# Altium integrated library Xilinx PLD XC9500XL.IntLib: 169 symbols (part 2 of 11)
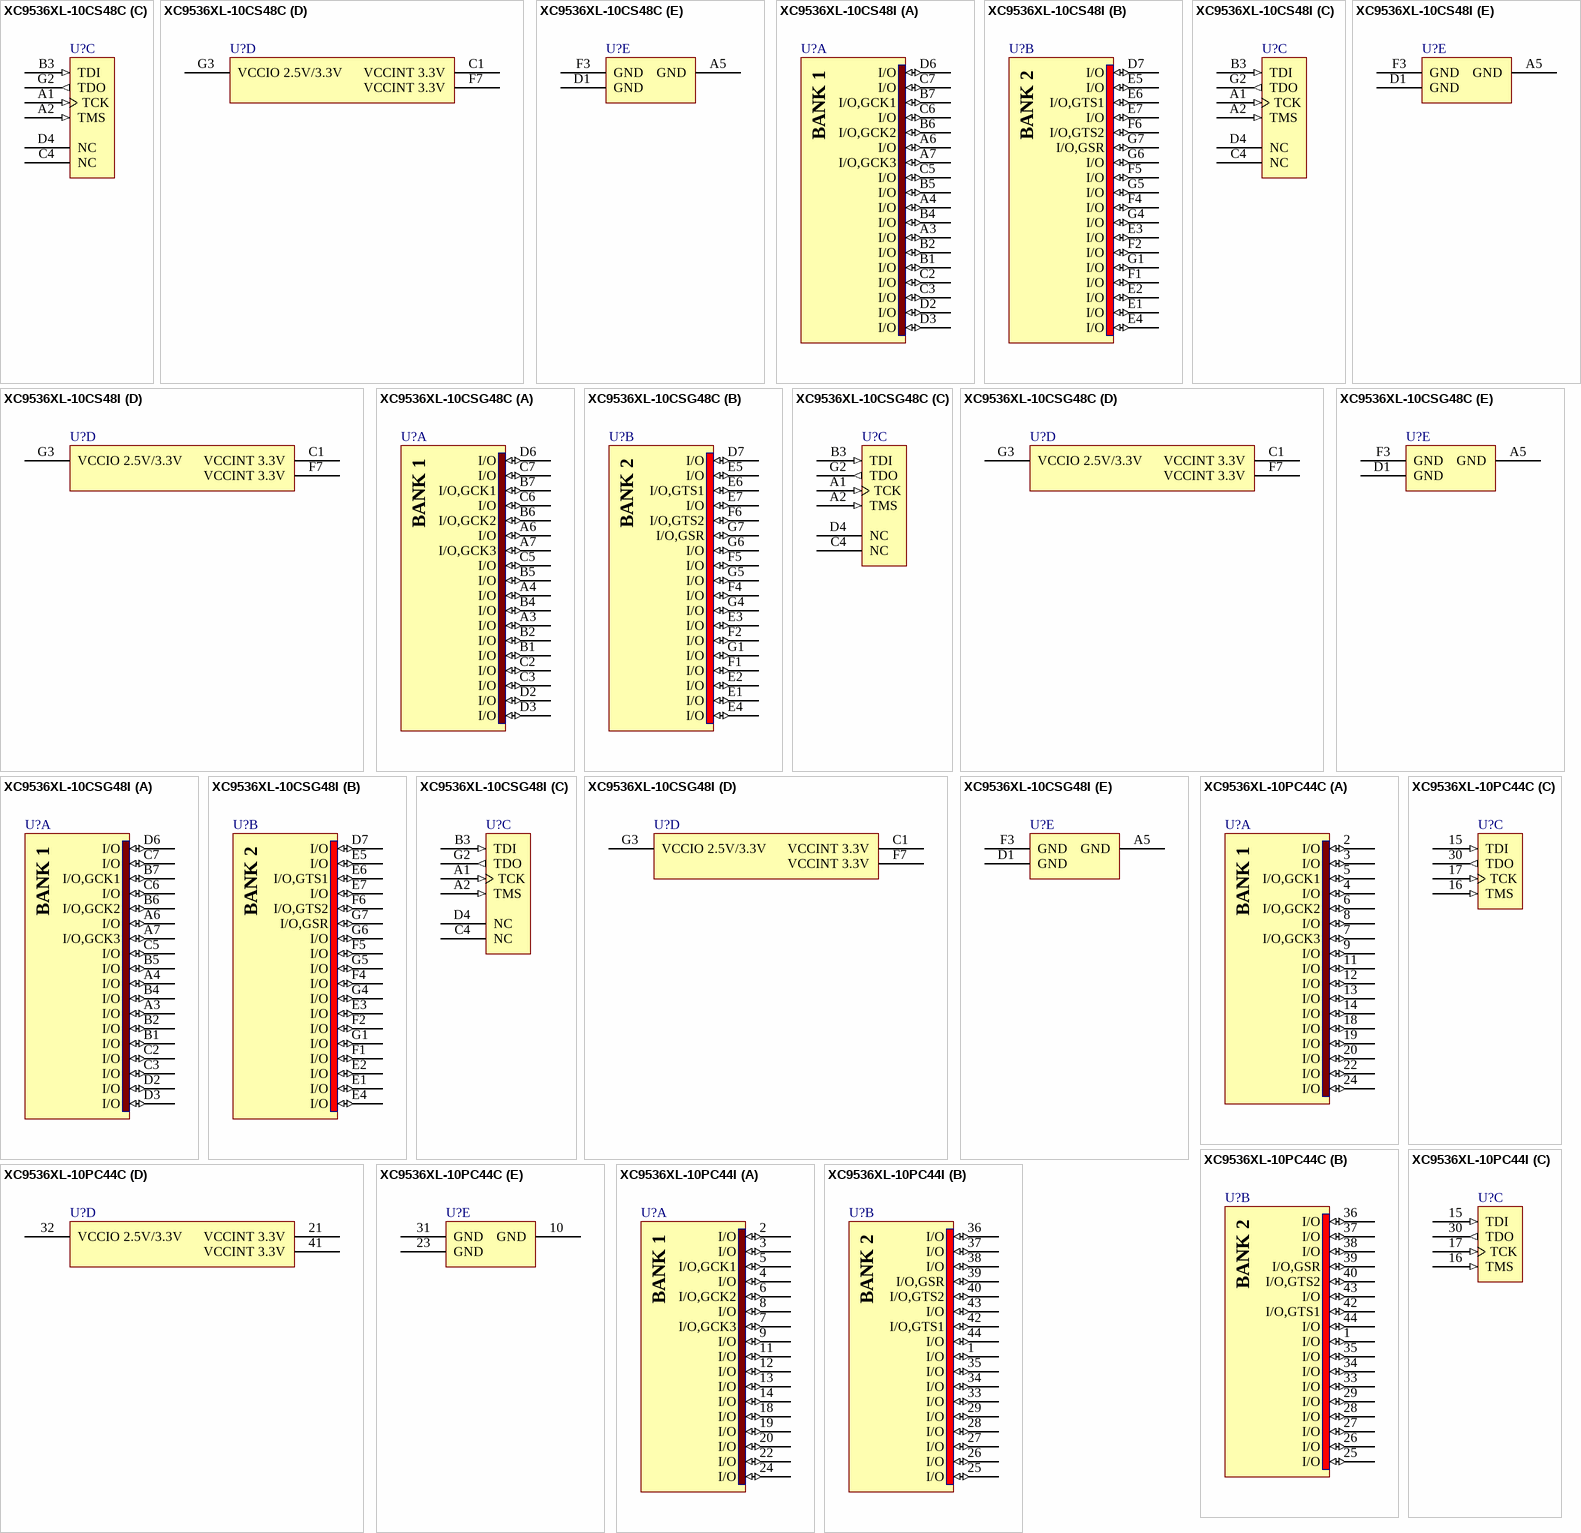
[diagram p59: symbols XC9536XL-10CS48C to XC9536XL-10PC44I]

## XC9536XL-10PC44C
designator U?
FastFLASH XC900XL, 3.3V High-Performance 36 Macrocell CPLD, 34 User I/Os, 44-Pin PLCC, Speed Grade 10, Commercial Grade; DatasheetVersion: ver1.9, Apr-2007; PackageVersion: ver1.2, Jun-2004; PackageReference: PC44; PackageDescription: 44-Pin Plastic Leaded Chip Carrier (PC44); Code_JEDEC: MS-047; Code_IPC: PLCC-44; ComponentLink1Description: Manufacturer URL; ComponentLink1URL: http://www.xilinx.com/; ComponentLink2Description: XC9536XL Datasheet; ComponentLink2URL: http://www.xilinx.com/support/documentation/data_sheets/ds058.pdf; ComponentLink3Description: PC44 Package Drawing; ComponentLink3URL: http://www.xilinx.com/support/documentation/package_specs/pc44.pdf; ComponentLink4Description: XC9500XL Documents; ComponentLink4URL: http://www.xilinx.com/support/documentation/xc9500xl.htm
footprint PC44_N (Leaded Chip Carrier, 44-Leads, Body 16.6x16.6mm, Pitch 1.27mm, IPC Medium Density)
footprint PC44_L (Leaded Chip Carrier, 44-Leads, Body 16.6x16.6mm, Pitch 1.27mm, IPC High Density)
footprint PC44_M (Leaded Chip Carrier, 44-Leads, Body 16.6x16.6mm, Pitch 1.27mm, IPC Low Density)
part A pins: 2 I/O (io), 3 I/O (io), 4 I/O (io), 5 I/O,GCK1 (io), 6 I/O,GCK2 (io), 7 I/O,GCK3 (io), 8 I/O (io), 9 I/O (io), 11 I/O (io), 12 I/O (io), 13 I/O (io), 14 I/O (io), 18 I/O (io), 19 I/O (io), 20 I/O (io), 22 I/O (io), 24 I/O (io)
part B pins: 1 I/O (io), 25 I/O (io), 26 I/O (io), 27 I/O (io), 28 I/O (io), 29 I/O (io), 33 I/O (io), 34 I/O (io), 35 I/O (io), 36 I/O (io), 37 I/O (io), 38 I/O (io), 39 I/O,GSR (io), 40 I/O,GTS2 (io), 42 I/O,GTS1 (io), 43 I/O (io), 44 I/O (io)
part C pins: 15 TDI (in), 16 TMS (in), 17 TCK (in), 30 TDO (out)
part D pins: 21 VCCINT 3.3V (power), 32 VCCIO 2.5V/3.3V (power), 41 VCCINT 3.3V (power)
part E pins: 10 GND (power), 23 GND (power), 31 GND (power)
part A text: BANK 1
part B text: BANK 2

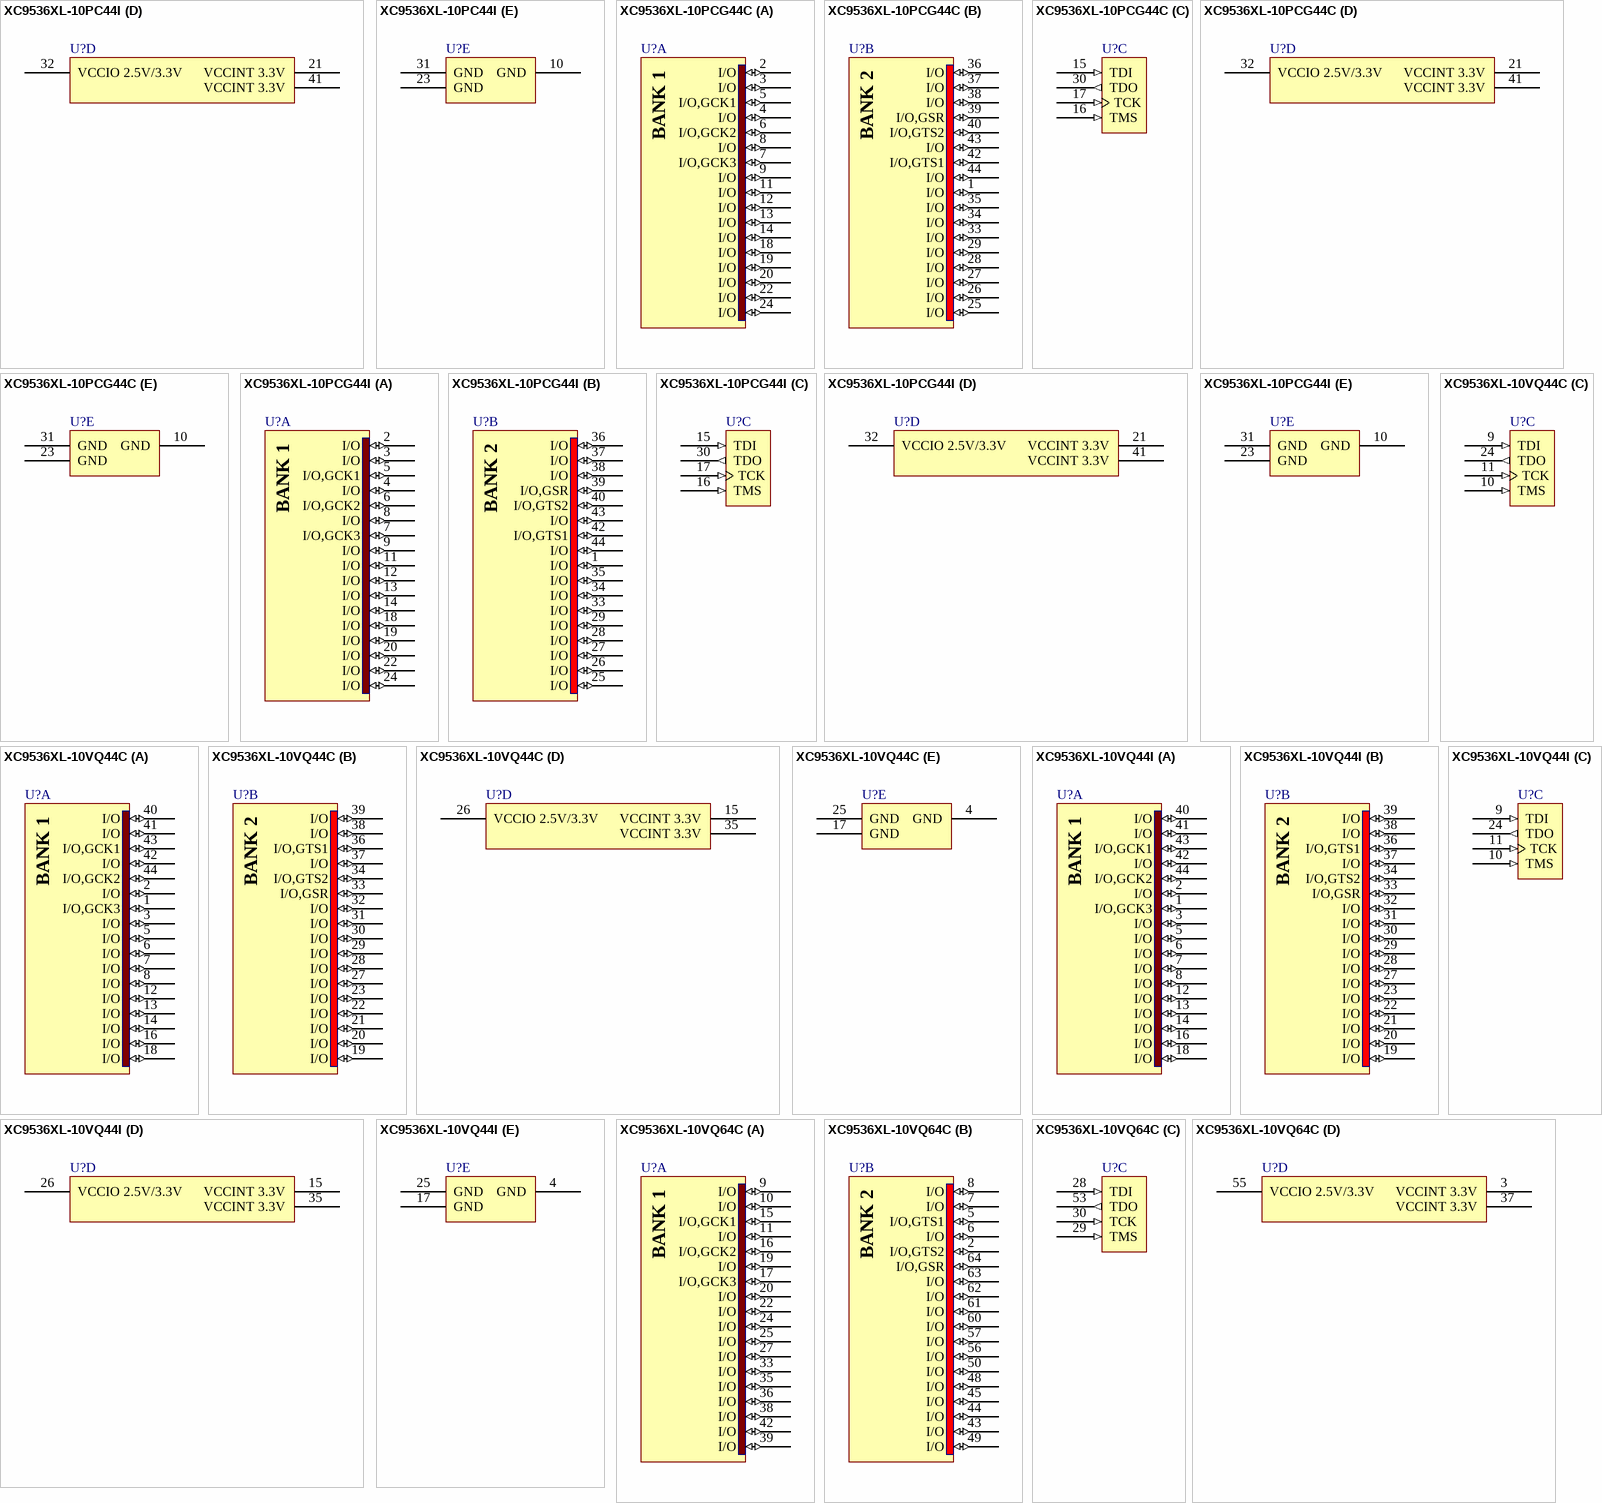
[diagram p6: symbols XC9536XL-10PC44I to XC9536XL-10VQ64C]

## XC9536XL-10PC44I
designator U?
FastFLASH XC900XL, 3.3V High-Performance 36 Macrocell CPLD, 34 User I/Os, 44-Pin PLCC, Speed Grade 10, Industrial Grade; DatasheetVersion: ver1.9, Apr-2007; PackageVersion: ver1.2, Jun-2004; PackageReference: PC44; PackageDescription: 44-Pin Plastic Leaded Chip Carrier (PC44); Code_JEDEC: MS-047; Code_IPC: PLCC-44; ComponentLink1Description: Manufacturer URL; ComponentLink1URL: http://www.xilinx.com/; ComponentLink2Description: XC9536XL Datasheet; ComponentLink2URL: http://www.xilinx.com/support/documentation/data_sheets/ds058.pdf; ComponentLink3Description: PC44 Package Drawing; ComponentLink3URL: http://www.xilinx.com/support/documentation/package_specs/pc44.pdf; ComponentLink4Description: XC9500XL Documents; ComponentLink4URL: http://www.xilinx.com/support/documentation/xc9500xl.htm
footprint PC44_N (Leaded Chip Carrier, 44-Leads, Body 16.6x16.6mm, Pitch 1.27mm, IPC Medium Density)
footprint PC44_L (Leaded Chip Carrier, 44-Leads, Body 16.6x16.6mm, Pitch 1.27mm, IPC High Density)
footprint PC44_M (Leaded Chip Carrier, 44-Leads, Body 16.6x16.6mm, Pitch 1.27mm, IPC Low Density)
part A pins: 2 I/O (io), 3 I/O (io), 4 I/O (io), 5 I/O,GCK1 (io), 6 I/O,GCK2 (io), 7 I/O,GCK3 (io), 8 I/O (io), 9 I/O (io), 11 I/O (io), 12 I/O (io), 13 I/O (io), 14 I/O (io), 18 I/O (io), 19 I/O (io), 20 I/O (io), 22 I/O (io), 24 I/O (io)
part B pins: 1 I/O (io), 25 I/O (io), 26 I/O (io), 27 I/O (io), 28 I/O (io), 29 I/O (io), 33 I/O (io), 34 I/O (io), 35 I/O (io), 36 I/O (io), 37 I/O (io), 38 I/O (io), 39 I/O,GSR (io), 40 I/O,GTS2 (io), 42 I/O,GTS1 (io), 43 I/O (io), 44 I/O (io)
part C pins: 15 TDI (in), 16 TMS (in), 17 TCK (in), 30 TDO (out)
part D pins: 21 VCCINT 3.3V (power), 32 VCCIO 2.5V/3.3V (power), 41 VCCINT 3.3V (power)
part E pins: 10 GND (power), 23 GND (power), 31 GND (power)
part A text: BANK 1
part B text: BANK 2

## XC9536XL-10PCG44C
designator U?
FastFLASH XC900XL, 3.3V High-Performance 36 Macrocell CPLD, 34 User I/Os, 44-Pin PLCC, Speed Grade 10, Commercial Grade, Pb-Free; DatasheetVersion: ver1.9, Apr-2007; PackageVersion: ver1.2, Jun-2004; PackageReference: PCG44; PackageDescription: 44-Pin Plastic Leaded Chip Carrier (PCG44) - Pb-Free; Code_JEDEC: MS-047; Code_IPC: PLCC-44; ComponentLink1Description: Manufacturer URL; ComponentLink1URL: http://www.xilinx.com/; ComponentLink2Description: XC9536XL Datasheet; ComponentLink2URL: http://www.xilinx.com/support/documentation/data_sheets/ds058.pdf; ComponentLink3Description: PCG44 Package Drawing; ComponentLink3URL: http://www.xilinx.com/support/documentation/package_specs/pc44.pdf; ComponentLink4Description: XC9500XL Documents; ComponentLink4URL: http://www.xilinx.com/support/documentation/xc9500xl.htm
footprint PCG44_N (Leaded Chip Carrier, 44-Leads, Body 16.6x16.6mm, Pitch 1.27mm, IPC Medium Density)
footprint PCG44_L (Leaded Chip Carrier, 44-Leads, Body 16.6x16.6mm, Pitch 1.27mm, IPC High Density)
footprint PCG44_M (Leaded Chip Carrier, 44-Leads, Body 16.6x16.6mm, Pitch 1.27mm, IPC Low Density)
part A pins: 2 I/O (io), 3 I/O (io), 4 I/O (io), 5 I/O,GCK1 (io), 6 I/O,GCK2 (io), 7 I/O,GCK3 (io), 8 I/O (io), 9 I/O (io), 11 I/O (io), 12 I/O (io), 13 I/O (io), 14 I/O (io), 18 I/O (io), 19 I/O (io), 20 I/O (io), 22 I/O (io), 24 I/O (io)
part B pins: 1 I/O (io), 25 I/O (io), 26 I/O (io), 27 I/O (io), 28 I/O (io), 29 I/O (io), 33 I/O (io), 34 I/O (io), 35 I/O (io), 36 I/O (io), 37 I/O (io), 38 I/O (io), 39 I/O,GSR (io), 40 I/O,GTS2 (io), 42 I/O,GTS1 (io), 43 I/O (io), 44 I/O (io)
part C pins: 15 TDI (in), 16 TMS (in), 17 TCK (in), 30 TDO (out)
part D pins: 21 VCCINT 3.3V (power), 32 VCCIO 2.5V/3.3V (power), 41 VCCINT 3.3V (power)
part E pins: 10 GND (power), 23 GND (power), 31 GND (power)
part A text: BANK 1
part B text: BANK 2

## XC9536XL-10PCG44I
designator U?
FastFLASH XC900XL, 3.3V High-Performance 36 Macrocell CPLD, 34 User I/Os, 44-Pin PLCC, Speed Grade 10, Industrial Grade, Pb-Free; DatasheetVersion: ver1.9, Apr-2007; PackageVersion: ver1.2, Jun-2004; PackageReference: PCG44; PackageDescription: 44-Pin Plastic Leaded Chip Carrier (PCG44) - Pb-Free; Code_JEDEC: MS-047; Code_IPC: PLCC-44; ComponentLink1Description: Manufacturer URL; ComponentLink1URL: http://www.xilinx.com/; ComponentLink2Description: XC9536XL Datasheet; ComponentLink2URL: http://www.xilinx.com/support/documentation/data_sheets/ds058.pdf; ComponentLink3Description: PCG44 Package Drawing; ComponentLink3URL: http://www.xilinx.com/support/documentation/package_specs/pc44.pdf; ComponentLink4Description: XC9500XL Documents; ComponentLink4URL: http://www.xilinx.com/support/documentation/xc9500xl.htm
footprint PCG44_N (Leaded Chip Carrier, 44-Leads, Body 16.6x16.6mm, Pitch 1.27mm, IPC Medium Density)
footprint PCG44_L (Leaded Chip Carrier, 44-Leads, Body 16.6x16.6mm, Pitch 1.27mm, IPC High Density)
footprint PCG44_M (Leaded Chip Carrier, 44-Leads, Body 16.6x16.6mm, Pitch 1.27mm, IPC Low Density)
part A pins: 2 I/O (io), 3 I/O (io), 4 I/O (io), 5 I/O,GCK1 (io), 6 I/O,GCK2 (io), 7 I/O,GCK3 (io), 8 I/O (io), 9 I/O (io), 11 I/O (io), 12 I/O (io), 13 I/O (io), 14 I/O (io), 18 I/O (io), 19 I/O (io), 20 I/O (io), 22 I/O (io), 24 I/O (io)
part B pins: 1 I/O (io), 25 I/O (io), 26 I/O (io), 27 I/O (io), 28 I/O (io), 29 I/O (io), 33 I/O (io), 34 I/O (io), 35 I/O (io), 36 I/O (io), 37 I/O (io), 38 I/O (io), 39 I/O,GSR (io), 40 I/O,GTS2 (io), 42 I/O,GTS1 (io), 43 I/O (io), 44 I/O (io)
part C pins: 15 TDI (in), 16 TMS (in), 17 TCK (in), 30 TDO (out)
part D pins: 21 VCCINT 3.3V (power), 32 VCCIO 2.5V/3.3V (power), 41 VCCINT 3.3V (power)
part E pins: 10 GND (power), 23 GND (power), 31 GND (power)
part A text: BANK 1
part B text: BANK 2

## XC9536XL-10VQ44C
designator U?
FastFLASH XC900XL, 3.3V High-Performance 36 Macrocell CPLD, 34 User I/Os, 44-Pin VQFP, Speed Grade 10, Commercial Grade; DatasheetVersion: ver1.9, Apr-2007; PackageVersion: ver1.2, Jun-2004; PackageReference: VQ44; PackageDescription: 44-Pin Very Thin Quad Flat Pack (VQ44); Code_JEDEC: MS-026-ACB; ComponentLink1Description: Manufacturer URL; ComponentLink1URL: http://www.xilinx.com/; ComponentLink2Description: XC9536XL Datasheet; ComponentLink2URL: http://www.xilinx.com/support/documentation/data_sheets/ds058.pdf; ComponentLink3Description: VQ44 Package Drawing; ComponentLink3URL: http://www.xilinx.com/support/documentation/package_specs/vq44.pdf; ComponentLink4Description: XC9500XL Documents; ComponentLink4URL: http://www.xilinx.com/support/documentation/xc9500xl.htm
footprint VQ44_N (Thin QFP, 44-Leads, Body 10x10mm, Pitch 0.8mm, IPC Medium Density)
footprint VQ44_L (Thin QFP, 44-Leads, Body 10x10mm, Pitch 0.8mm, IPC High Density)
footprint VQ44_M (Thin QFP, 44-Leads, Body 10x10mm, Pitch 0.8mm, IPC Low Density)
part A pins: 1 I/O,GCK3 (io), 2 I/O (io), 3 I/O (io), 5 I/O (io), 6 I/O (io), 7 I/O (io), 8 I/O (io), 12 I/O (io), 13 I/O (io), 14 I/O (io), 16 I/O (io), 18 I/O (io), 40 I/O (io), 41 I/O (io), 42 I/O (io), 43 I/O,GCK1 (io), 44 I/O,GCK2 (io)
part B pins: 19 I/O (io), 20 I/O (io), 21 I/O (io), 22 I/O (io), 23 I/O (io), 27 I/O (io), 28 I/O (io), 29 I/O (io), 30 I/O (io), 31 I/O (io), 32 I/O (io), 33 I/O,GSR (io), 34 I/O,GTS2 (io), 36 I/O,GTS1 (io), 37 I/O (io), 38 I/O (io), 39 I/O (io)
part C pins: 9 TDI (in), 10 TMS (in), 11 TCK (in), 24 TDO (out)
part D pins: 15 VCCINT 3.3V (power), 26 VCCIO 2.5V/3.3V (power), 35 VCCINT 3.3V (power)
part E pins: 4 GND (power), 17 GND (power), 25 GND (power)
part A text: BANK 1
part B text: BANK 2

## XC9536XL-10VQ44I
designator U?
FastFLASH XC900XL, 3.3V High-Performance 36 Macrocell CPLD, 34 User I/Os, 44-Pin VQFP, Speed Grade 10, Industrial Grade; DatasheetVersion: ver1.9, Apr-2007; PackageVersion: ver1.2, Jun-2004; PackageReference: VQ44; PackageDescription: 44-Pin Very Thin Quad Flat Pack (VQ44); Code_JEDEC: MS-026-ACB; ComponentLink1Description: Manufacturer URL; ComponentLink1URL: http://www.xilinx.com/; ComponentLink2Description: XC9536XL Datasheet; ComponentLink2URL: http://www.xilinx.com/support/documentation/data_sheets/ds058.pdf; ComponentLink3Description: VQ44 Package Drawing; ComponentLink3URL: http://www.xilinx.com/support/documentation/package_specs/vq44.pdf; ComponentLink4Description: XC9500XL Documents; ComponentLink4URL: http://www.xilinx.com/support/documentation/xc9500xl.htm
footprint VQ44_N (Thin QFP, 44-Leads, Body 10x10mm, Pitch 0.8mm, IPC Medium Density)
footprint VQ44_L (Thin QFP, 44-Leads, Body 10x10mm, Pitch 0.8mm, IPC High Density)
footprint VQ44_M (Thin QFP, 44-Leads, Body 10x10mm, Pitch 0.8mm, IPC Low Density)
part A pins: 1 I/O,GCK3 (io), 2 I/O (io), 3 I/O (io), 5 I/O (io), 6 I/O (io), 7 I/O (io), 8 I/O (io), 12 I/O (io), 13 I/O (io), 14 I/O (io), 16 I/O (io), 18 I/O (io), 40 I/O (io), 41 I/O (io), 42 I/O (io), 43 I/O,GCK1 (io), 44 I/O,GCK2 (io)
part B pins: 19 I/O (io), 20 I/O (io), 21 I/O (io), 22 I/O (io), 23 I/O (io), 27 I/O (io), 28 I/O (io), 29 I/O (io), 30 I/O (io), 31 I/O (io), 32 I/O (io), 33 I/O,GSR (io), 34 I/O,GTS2 (io), 36 I/O,GTS1 (io), 37 I/O (io), 38 I/O (io), 39 I/O (io)
part C pins: 9 TDI (in), 10 TMS (in), 11 TCK (in), 24 TDO (out)
part D pins: 15 VCCINT 3.3V (power), 26 VCCIO 2.5V/3.3V (power), 35 VCCINT 3.3V (power)
part E pins: 4 GND (power), 17 GND (power), 25 GND (power)
part A text: BANK 1
part B text: BANK 2

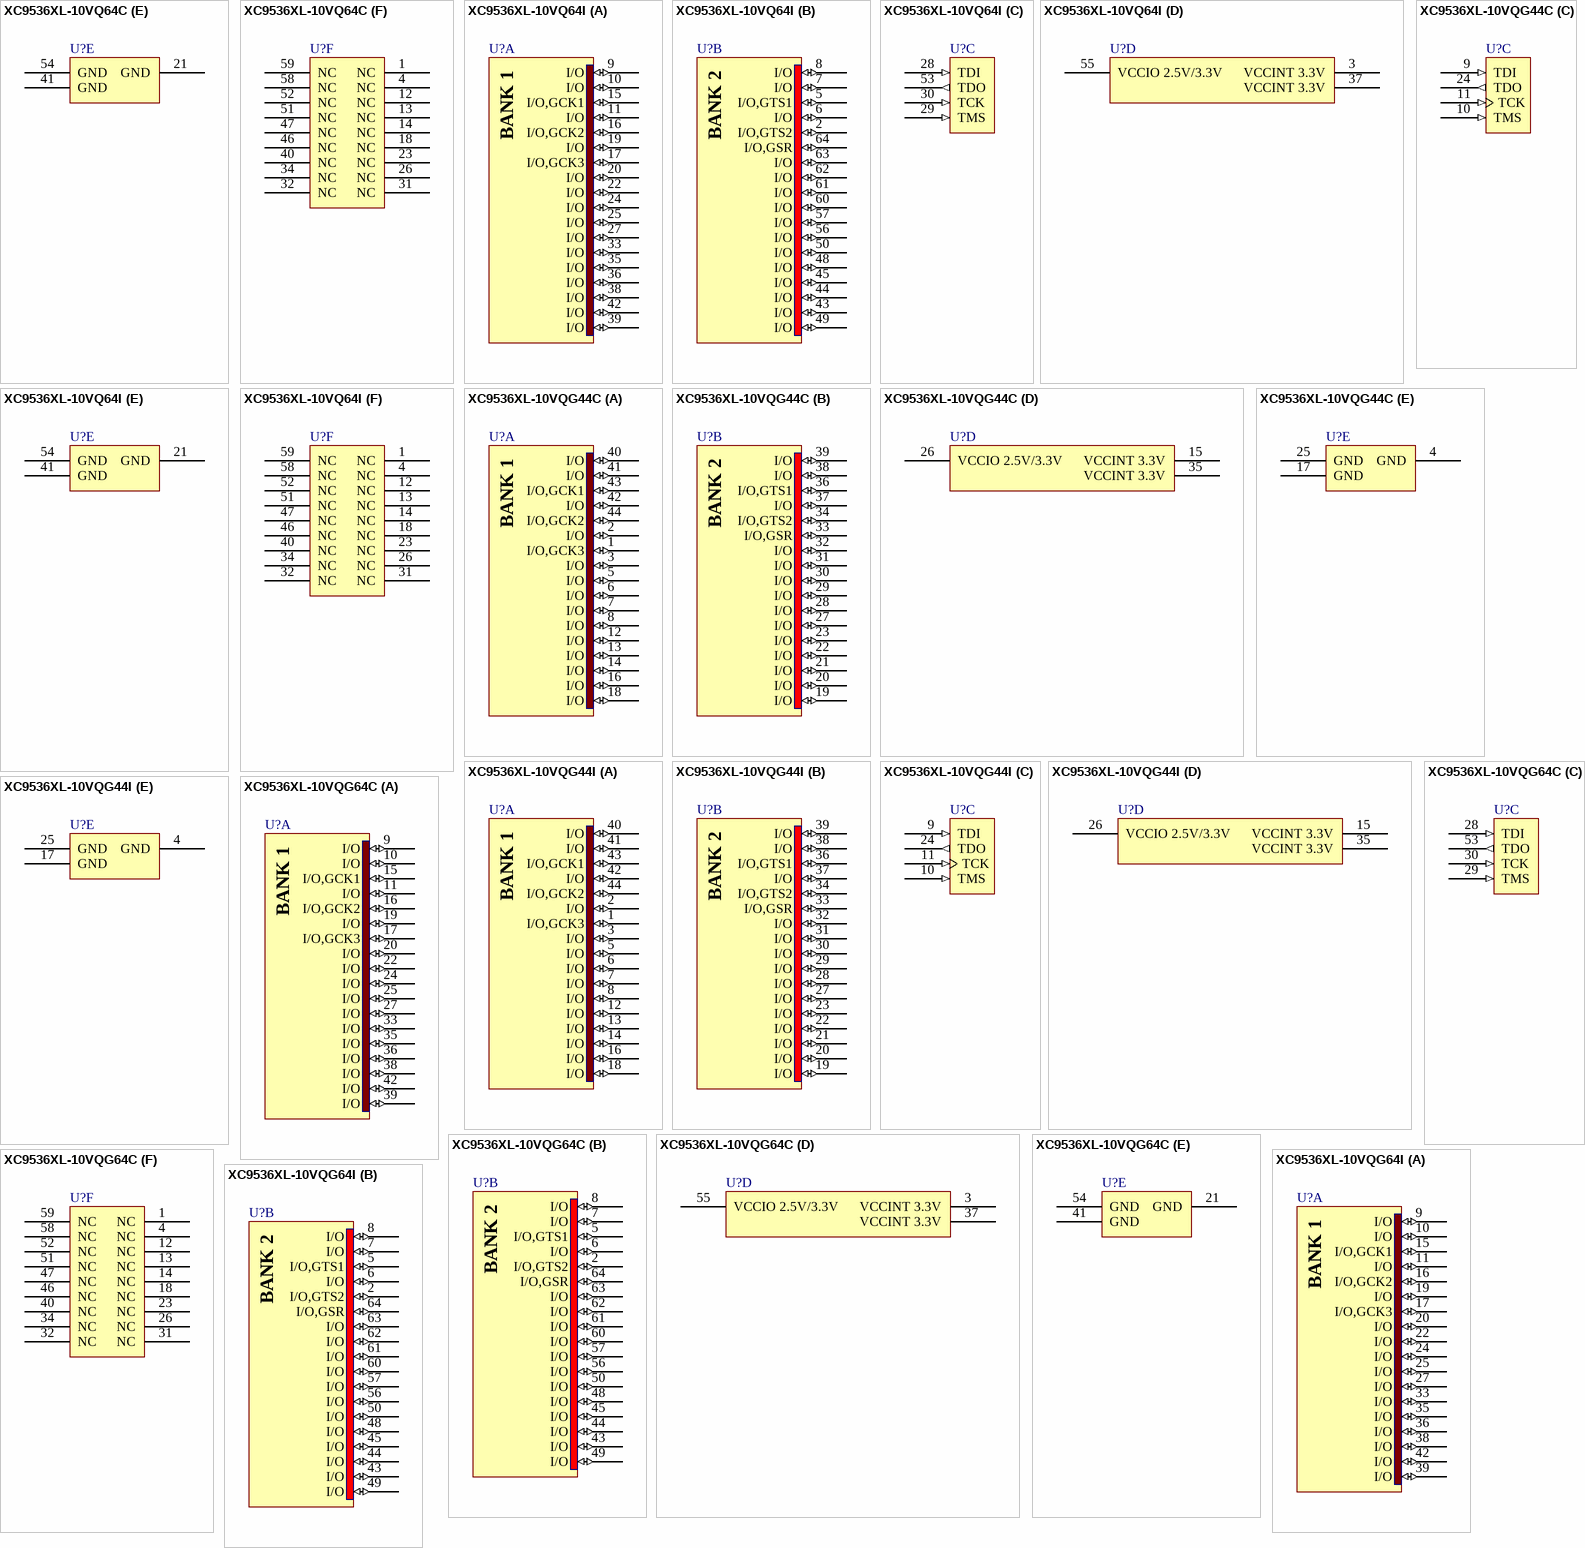
[diagram p7: symbols XC9536XL-10VQ64C to XC9536XL-10VQG64I]

## XC9536XL-10VQ64C
designator U?
FastFLASH XC900XL, 3.3V High-Performance 36 Macrocell CPLD, 36 User I/Os, 64-Pin VQFP, Speed Grade 10, Commercial Grade; DatasheetVersion: ver1.9, Apr-2007; PackageVersion: ver1.2, Jun-2004; PackageReference: VQ64; PackageDescription: 64-Pin Very Thin Quad Flat Pack (VQ64); Code_JEDEC: MS-026-ACD; ComponentLink1Description: Manufacturer URL; ComponentLink1URL: http://www.xilinx.com/; ComponentLink2Description: XC9536XL Datasheet; ComponentLink2URL: http://www.xilinx.com/support/documentation/data_sheets/ds058.pdf; ComponentLink3Description: VQ64 Package Drawing; ComponentLink3URL: http://www.xilinx.com/support/documentation/package_specs/vq64.pdf; ComponentLink4Description: XC9500XL Documents; ComponentLink4URL: http://www.xilinx.com/support/documentation/xc9500xl.htm
footprint VQ64_N (Thin QFP, 64-Leads, Body 10x10mm, Pitch 0.5mm, IPC Medium Density)
footprint VQ64_L (Thin QFP, 64-Leads, Body 10x10mm, Pitch 0.5mm, IPC High Density)
footprint VQ64_M (Thin QFP, 64-Leads, Body 10x10mm, Pitch 0.5mm, IPC Low Density)
part A pins: 9 I/O (io), 10 I/O (io), 11 I/O (io), 15 I/O,GCK1 (io), 16 I/O,GCK2 (io), 17 I/O,GCK3 (io), 19 I/O (io), 20 I/O (io), 22 I/O (io), 24 I/O (io), 25 I/O (io), 27 I/O (io), 33 I/O (io), 35 I/O (io), 36 I/O (io), 38 I/O (io), 39 I/O (io), 42 I/O (io)
part B pins: 2 I/O,GTS2 (io), 5 I/O,GTS1 (io), 6 I/O (io), 7 I/O (io), 8 I/O (io), 43 I/O (io), 44 I/O (io), 45 I/O (io), 48 I/O (io), 49 I/O (io), 50 I/O (io), 56 I/O (io), 57 I/O (io), 60 I/O (io), 61 I/O (io), 62 I/O (io), 63 I/O (io), 64 I/O,GSR (io)
part C pins: 28 TDI (in), 29 TMS (in), 30 TCK (in), 53 TDO (out)
part D pins: 3 VCCINT 3.3V (power), 37 VCCINT 3.3V (power), 55 VCCIO 2.5V/3.3V (power)
part E pins: 21 GND (power), 41 GND (power), 54 GND (power)
part F pins: 1 NC, 4 NC, 12 NC, 13 NC, 14 NC, 18 NC, 23 NC, 26 NC, 31 NC, 32 NC, 34 NC, 40 NC, 46 NC, 47 NC, 51 NC, 52 NC, 58 NC, 59 NC
part A text: BANK 1
part B text: BANK 2

## XC9536XL-10VQ64I
designator U?
FastFLASH XC900XL, 3.3V High-Performance 36 Macrocell CPLD, 36 User I/Os, 64-Pin VQFP, Speed Grade 10, Industrial Grade; DatasheetVersion: ver1.9, Apr-2007; PackageVersion: ver1.2, Jun-2004; PackageReference: VQ64; PackageDescription: 64-Pin Very Thin Quad Flat Pack (VQ64); Code_JEDEC: MS-026-ACD; ComponentLink1Description: Manufacturer URL; ComponentLink1URL: http://www.xilinx.com/; ComponentLink2Description: XC9536XL Datasheet; ComponentLink2URL: http://www.xilinx.com/support/documentation/data_sheets/ds058.pdf; ComponentLink3Description: VQ64 Package Drawing; ComponentLink3URL: http://www.xilinx.com/support/documentation/package_specs/vq64.pdf; ComponentLink4Description: XC9500XL Documents; ComponentLink4URL: http://www.xilinx.com/support/documentation/xc9500xl.htm
footprint VQ64_N (Thin QFP, 64-Leads, Body 10x10mm, Pitch 0.5mm, IPC Medium Density)
footprint VQ64_L (Thin QFP, 64-Leads, Body 10x10mm, Pitch 0.5mm, IPC High Density)
footprint VQ64_M (Thin QFP, 64-Leads, Body 10x10mm, Pitch 0.5mm, IPC Low Density)
part A pins: 9 I/O (io), 10 I/O (io), 11 I/O (io), 15 I/O,GCK1 (io), 16 I/O,GCK2 (io), 17 I/O,GCK3 (io), 19 I/O (io), 20 I/O (io), 22 I/O (io), 24 I/O (io), 25 I/O (io), 27 I/O (io), 33 I/O (io), 35 I/O (io), 36 I/O (io), 38 I/O (io), 39 I/O (io), 42 I/O (io)
part B pins: 2 I/O,GTS2 (io), 5 I/O,GTS1 (io), 6 I/O (io), 7 I/O (io), 8 I/O (io), 43 I/O (io), 44 I/O (io), 45 I/O (io), 48 I/O (io), 49 I/O (io), 50 I/O (io), 56 I/O (io), 57 I/O (io), 60 I/O (io), 61 I/O (io), 62 I/O (io), 63 I/O (io), 64 I/O,GSR (io)
part C pins: 28 TDI (in), 29 TMS (in), 30 TCK (in), 53 TDO (out)
part D pins: 3 VCCINT 3.3V (power), 37 VCCINT 3.3V (power), 55 VCCIO 2.5V/3.3V (power)
part E pins: 21 GND (power), 41 GND (power), 54 GND (power)
part F pins: 1 NC, 4 NC, 12 NC, 13 NC, 14 NC, 18 NC, 23 NC, 26 NC, 31 NC, 32 NC, 34 NC, 40 NC, 46 NC, 47 NC, 51 NC, 52 NC, 58 NC, 59 NC
part A text: BANK 1
part B text: BANK 2

## XC9536XL-10VQG44C
designator U?
FastFLASH XC900XL, 3.3V High-Performance 36 Macrocell CPLD, 34 User I/Os, 44-Pin VQFP, Speed Grade 10, Commercial Grade, Pb-Free; DatasheetVersion: ver1.9, Apr-2007; PackageVersion: ver1.2, Jun-2004; PackageReference: VQG44; PackageDescription: 44-Pin Very Thin Quad Flat Pack (VQG44) - Pb-Free; Code_JEDEC: MS-026-ACB; ComponentLink1Description: Manufacturer URL; ComponentLink1URL: http://www.xilinx.com/; ComponentLink2Description: XC9536XL Datasheet; ComponentLink2URL: http://www.xilinx.com/support/documentation/data_sheets/ds058.pdf; ComponentLink3Description: VQG44 Package Drawing; ComponentLink3URL: http://www.xilinx.com/support/documentation/package_specs/vq44.pdf; ComponentLink4Description: XC9500XL Documents; ComponentLink4URL: http://www.xilinx.com/support/documentation/xc9500xl.htm
footprint VQG44_N (Thin QFP, 44-Leads, Body 10x10mm, Pitch 0.8mm, IPC Medium Density)
footprint VQG44_L (Thin QFP, 44-Leads, Body 10x10mm, Pitch 0.8mm, IPC High Density)
footprint VQG44_M (Thin QFP, 44-Leads, Body 10x10mm, Pitch 0.8mm, IPC Low Density)
part A pins: 1 I/O,GCK3 (io), 2 I/O (io), 3 I/O (io), 5 I/O (io), 6 I/O (io), 7 I/O (io), 8 I/O (io), 12 I/O (io), 13 I/O (io), 14 I/O (io), 16 I/O (io), 18 I/O (io), 40 I/O (io), 41 I/O (io), 42 I/O (io), 43 I/O,GCK1 (io), 44 I/O,GCK2 (io)
part B pins: 19 I/O (io), 20 I/O (io), 21 I/O (io), 22 I/O (io), 23 I/O (io), 27 I/O (io), 28 I/O (io), 29 I/O (io), 30 I/O (io), 31 I/O (io), 32 I/O (io), 33 I/O,GSR (io), 34 I/O,GTS2 (io), 36 I/O,GTS1 (io), 37 I/O (io), 38 I/O (io), 39 I/O (io)
part C pins: 9 TDI (in), 10 TMS (in), 11 TCK (in), 24 TDO (out)
part D pins: 15 VCCINT 3.3V (power), 26 VCCIO 2.5V/3.3V (power), 35 VCCINT 3.3V (power)
part E pins: 4 GND (power), 17 GND (power), 25 GND (power)
part A text: BANK 1
part B text: BANK 2

## XC9536XL-10VQG44I
designator U?
FastFLASH XC900XL, 3.3V High-Performance 36 Macrocell CPLD, 34 User I/Os, 44-Pin VQFP, Speed Grade 10, Industrial Grade, Pb-Free; DatasheetVersion: ver1.9, Apr-2007; PackageVersion: ver1.2, Jun-2004; PackageReference: VQG44; PackageDescription: 44-Pin Very Thin Quad Flat Pack (VQG44) - Pb-Free; Code_JEDEC: MS-026-ACB; ComponentLink1Description: Manufacturer URL; ComponentLink1URL: http://www.xilinx.com/; ComponentLink2Description: XC9536XL Datasheet; ComponentLink2URL: http://www.xilinx.com/support/documentation/data_sheets/ds058.pdf; ComponentLink3Description: VQG44 Package Drawing; ComponentLink3URL: http://www.xilinx.com/support/documentation/package_specs/vq44.pdf; ComponentLink4Description: XC9500XL Documents; ComponentLink4URL: http://www.xilinx.com/support/documentation/xc9500xl.htm
footprint VQG44_N (Thin QFP, 44-Leads, Body 10x10mm, Pitch 0.8mm, IPC Medium Density)
footprint VQG44_L (Thin QFP, 44-Leads, Body 10x10mm, Pitch 0.8mm, IPC High Density)
footprint VQG44_M (Thin QFP, 44-Leads, Body 10x10mm, Pitch 0.8mm, IPC Low Density)
part A pins: 1 I/O,GCK3 (io), 2 I/O (io), 3 I/O (io), 5 I/O (io), 6 I/O (io), 7 I/O (io), 8 I/O (io), 12 I/O (io), 13 I/O (io), 14 I/O (io), 16 I/O (io), 18 I/O (io), 40 I/O (io), 41 I/O (io), 42 I/O (io), 43 I/O,GCK1 (io), 44 I/O,GCK2 (io)
part B pins: 19 I/O (io), 20 I/O (io), 21 I/O (io), 22 I/O (io), 23 I/O (io), 27 I/O (io), 28 I/O (io), 29 I/O (io), 30 I/O (io), 31 I/O (io), 32 I/O (io), 33 I/O,GSR (io), 34 I/O,GTS2 (io), 36 I/O,GTS1 (io), 37 I/O (io), 38 I/O (io), 39 I/O (io)
part C pins: 9 TDI (in), 10 TMS (in), 11 TCK (in), 24 TDO (out)
part D pins: 15 VCCINT 3.3V (power), 26 VCCIO 2.5V/3.3V (power), 35 VCCINT 3.3V (power)
part E pins: 4 GND (power), 17 GND (power), 25 GND (power)
part A text: BANK 1
part B text: BANK 2

## XC9536XL-10VQG64C
designator U?
FastFLASH XC900XL, 3.3V High-Performance 36 Macrocell CPLD, 36 User I/Os, 64-Pin VQFP, Speed Grade 10, Commercial Grade, Pb-Free; DatasheetVersion: ver1.9, Apr-2007; PackageVersion: ver1.2, Jun-2004; PackageReference: VQG64; PackageDescription: 64-Pin Very Thin Quad Flat Pack (VQG64) - Pb-Free; Code_JEDEC: MS-026-ACD; ComponentLink1Description: Manufacturer URL; ComponentLink1URL: http://www.xilinx.com/; ComponentLink2Description: XC9536XL Datasheet; ComponentLink2URL: http://www.xilinx.com/support/documentation/data_sheets/ds058.pdf; ComponentLink3Description: VQG64 Package Drawing; ComponentLink3URL: http://www.xilinx.com/support/documentation/package_specs/vq64.pdf; ComponentLink4Description: XC9500XL Documents; ComponentLink4URL: http://www.xilinx.com/support/documentation/xc9500xl.htm
footprint VQG64_N (Thin QFP, 64-Leads, Body 10x10mm, Pitch 0.5mm, IPC Medium Density)
footprint VQG64_L (Thin QFP, 64-Leads, Body 10x10mm, Pitch 0.5mm, IPC High Density)
footprint VQG64_M (Thin QFP, 64-Leads, Body 10x10mm, Pitch 0.5mm, IPC Low Density)
part A pins: 9 I/O (io), 10 I/O (io), 11 I/O (io), 15 I/O,GCK1 (io), 16 I/O,GCK2 (io), 17 I/O,GCK3 (io), 19 I/O (io), 20 I/O (io), 22 I/O (io), 24 I/O (io), 25 I/O (io), 27 I/O (io), 33 I/O (io), 35 I/O (io), 36 I/O (io), 38 I/O (io), 39 I/O (io), 42 I/O (io)
part B pins: 2 I/O,GTS2 (io), 5 I/O,GTS1 (io), 6 I/O (io), 7 I/O (io), 8 I/O (io), 43 I/O (io), 44 I/O (io), 45 I/O (io), 48 I/O (io), 49 I/O (io), 50 I/O (io), 56 I/O (io), 57 I/O (io), 60 I/O (io), 61 I/O (io), 62 I/O (io), 63 I/O (io), 64 I/O,GSR (io)
part C pins: 28 TDI (in), 29 TMS (in), 30 TCK (in), 53 TDO (out)
part D pins: 3 VCCINT 3.3V (power), 37 VCCINT 3.3V (power), 55 VCCIO 2.5V/3.3V (power)
part E pins: 21 GND (power), 41 GND (power), 54 GND (power)
part F pins: 1 NC, 4 NC, 12 NC, 13 NC, 14 NC, 18 NC, 23 NC, 26 NC, 31 NC, 32 NC, 34 NC, 40 NC, 46 NC, 47 NC, 51 NC, 52 NC, 58 NC, 59 NC
part A text: BANK 1
part B text: BANK 2

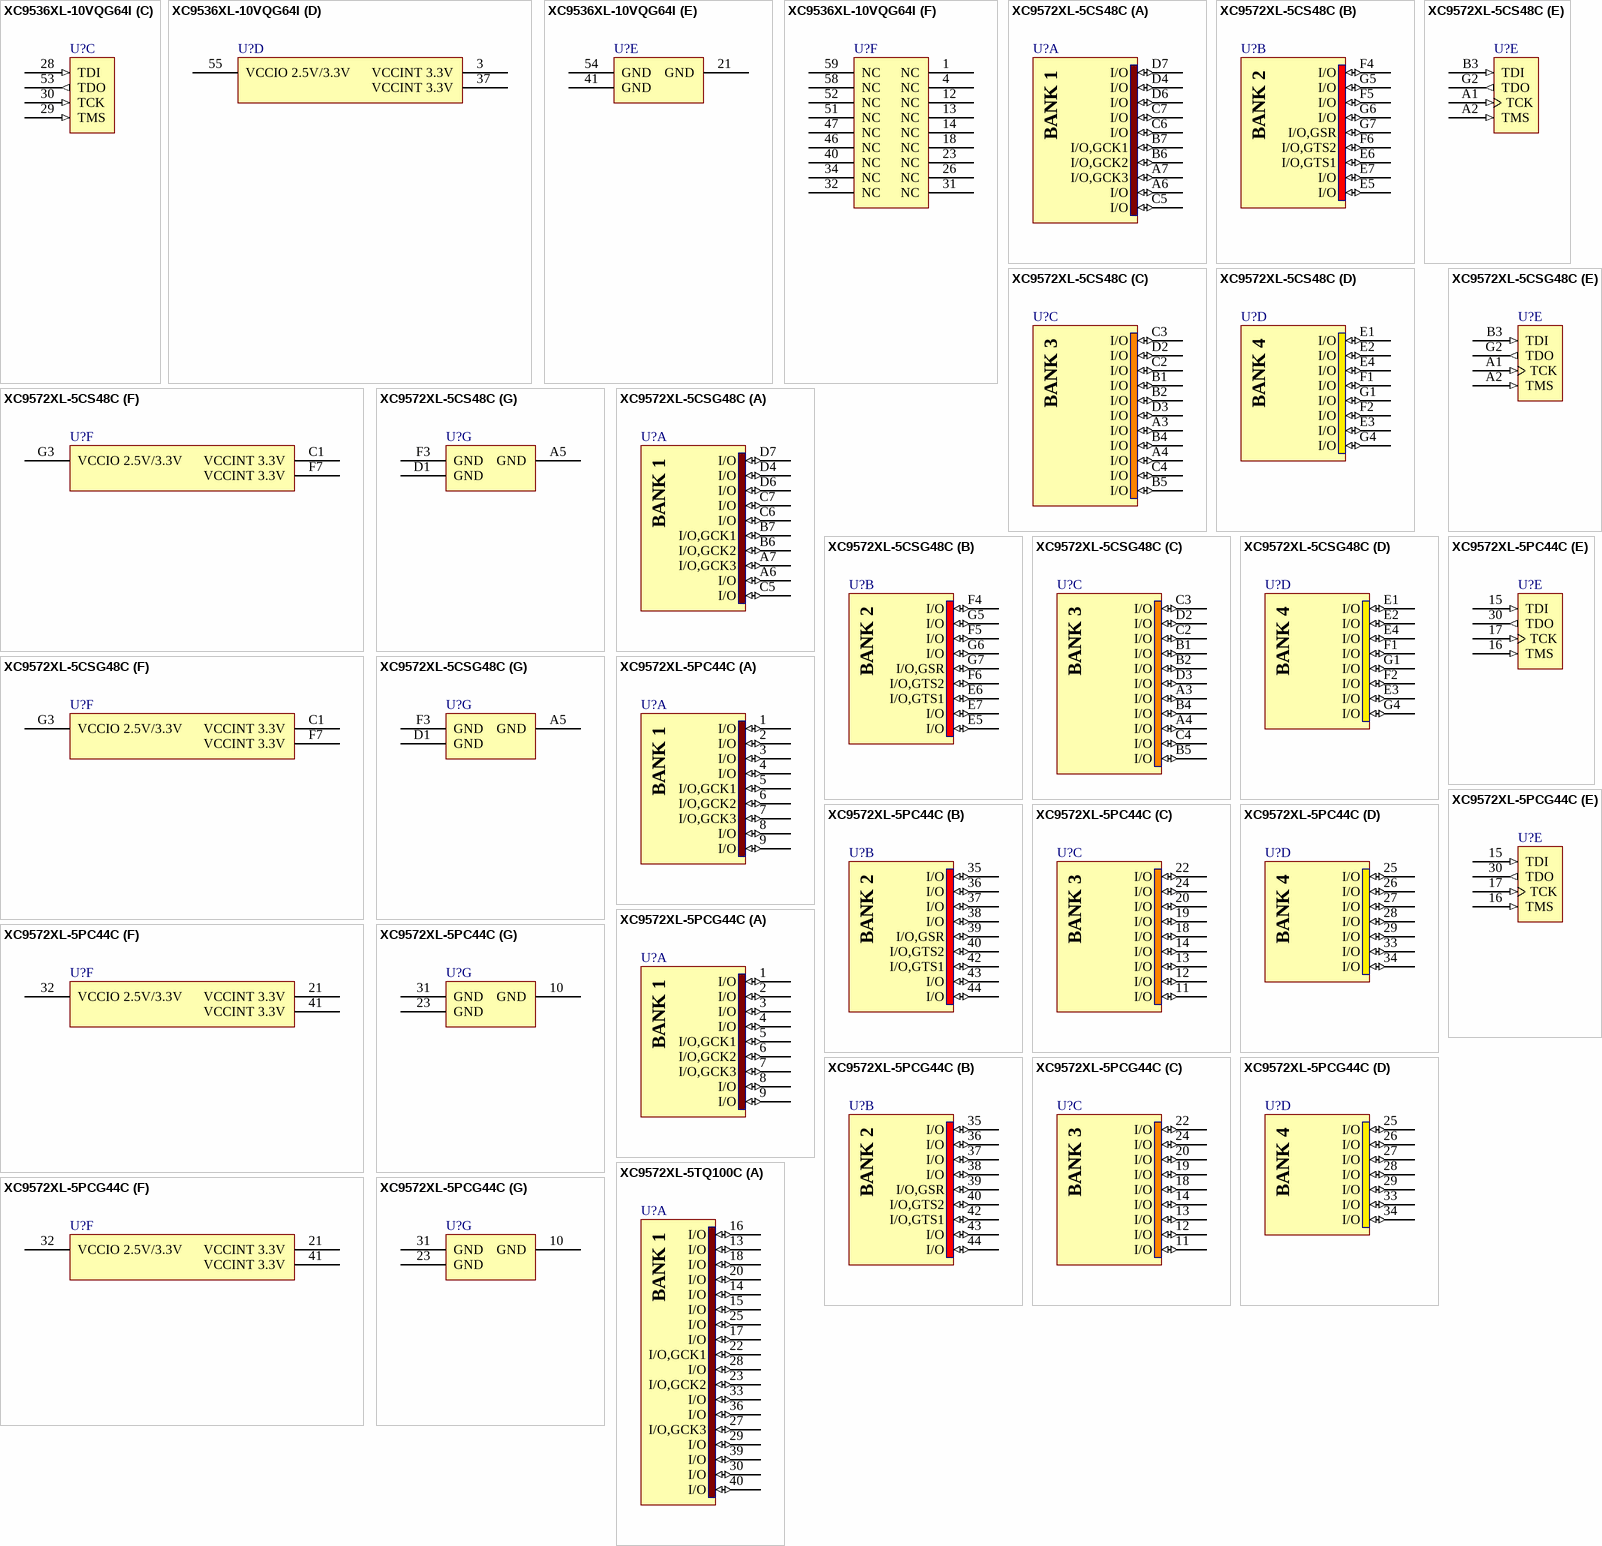
[diagram p8: symbols XC9536XL-10VQG64I to XC9572XL-5TQ100C]

## XC9536XL-10VQG64I
designator U?
FastFLASH XC900XL, 3.3V High-Performance 36 Macrocell CPLD, 36 User I/Os, 64-Pin VQFP, Speed Grade 10, Industrial Grade, Pb-Free; DatasheetVersion: ver1.9, Apr-2007; PackageVersion: ver1.2, Jun-2004; PackageReference: VQG64; PackageDescription: 64-Pin Very Thin Quad Flat Pack (VQG64) - Pb-Free; Code_JEDEC: MS-026-ACD; ComponentLink1Description: Manufacturer URL; ComponentLink1URL: http://www.xilinx.com/; ComponentLink2Description: XC9536XL Datasheet; ComponentLink2URL: http://www.xilinx.com/support/documentation/data_sheets/ds058.pdf; ComponentLink3Description: VQG64 Package Drawing; ComponentLink3URL: http://www.xilinx.com/support/documentation/package_specs/vq64.pdf; ComponentLink4Description: XC9500XL Documents; ComponentLink4URL: http://www.xilinx.com/support/documentation/xc9500xl.htm
footprint VQG64_N (Thin QFP, 64-Leads, Body 10x10mm, Pitch 0.5mm, IPC Medium Density)
footprint VQG64_L (Thin QFP, 64-Leads, Body 10x10mm, Pitch 0.5mm, IPC High Density)
footprint VQG64_M (Thin QFP, 64-Leads, Body 10x10mm, Pitch 0.5mm, IPC Low Density)
part A pins: 9 I/O (io), 10 I/O (io), 11 I/O (io), 15 I/O,GCK1 (io), 16 I/O,GCK2 (io), 17 I/O,GCK3 (io), 19 I/O (io), 20 I/O (io), 22 I/O (io), 24 I/O (io), 25 I/O (io), 27 I/O (io), 33 I/O (io), 35 I/O (io), 36 I/O (io), 38 I/O (io), 39 I/O (io), 42 I/O (io)
part B pins: 2 I/O,GTS2 (io), 5 I/O,GTS1 (io), 6 I/O (io), 7 I/O (io), 8 I/O (io), 43 I/O (io), 44 I/O (io), 45 I/O (io), 48 I/O (io), 49 I/O (io), 50 I/O (io), 56 I/O (io), 57 I/O (io), 60 I/O (io), 61 I/O (io), 62 I/O (io), 63 I/O (io), 64 I/O,GSR (io)
part C pins: 28 TDI (in), 29 TMS (in), 30 TCK (in), 53 TDO (out)
part D pins: 3 VCCINT 3.3V (power), 37 VCCINT 3.3V (power), 55 VCCIO 2.5V/3.3V (power)
part E pins: 21 GND (power), 41 GND (power), 54 GND (power)
part F pins: 1 NC, 4 NC, 12 NC, 13 NC, 14 NC, 18 NC, 23 NC, 26 NC, 31 NC, 32 NC, 34 NC, 40 NC, 46 NC, 47 NC, 51 NC, 52 NC, 58 NC, 59 NC
part A text: BANK 1
part B text: BANK 2

## XC9572XL-5CS48C
designator U?
FastFLASH XC900XL, 3.3V High-Performance 72 Macrocell CPLD, 38 User I/Os, 48-Ball CSBGA, Speed Grade 5, Commercial Grade; DatasheetVersion: ver2.0 Apr-2007; PackageVersion: ver1.2.1, Apr-2005; PackageReference: CS48; PackageDescription: 48-Ball Chip Scale Ball Grid Array (CS48); ComponentLink1Description: Manufacturer URL; ComponentLink1URL: http://www.xilinx.com/; ComponentLink2Description: XC9572XL Datasheet; ComponentLink2URL: http://www.xilinx.com/support/documentation/data_sheets/ds057.pdf; ComponentLink3Description: CS48 Package Drawing; ComponentLink3URL: http://www.xilinx.com/support/documentation/package_specs/cs48.pdf; ComponentLink4Description: XC9500XL Documents; ComponentLink4URL: http://www.xilinx.com/support/documentation/xc9500xl.htm
footprint CS48 (BGA, 48-Leads, Body 7x7mm, Pitch 0.8mm)
part A pins: A6 I/O (io), A7 I/O,GCK3 (io), B6 I/O,GCK2 (io), B7 I/O,GCK1 (io), C5 I/O (io), C6 I/O (io), C7 I/O (io), D4 I/O (io), D6 I/O (io), D7 I/O (io)
part B pins: E5 I/O (io), E6 I/O,GTS1 (io), E7 I/O (io), F4 I/O (io), F5 I/O (io), F6 I/O,GTS2 (io), G5 I/O (io), G6 I/O (io), G7 I/O,GSR (io)
part C pins: A3 I/O (io), A4 I/O (io), B1 I/O (io), B2 I/O (io), B4 I/O (io), B5 I/O (io), C2 I/O (io), C3 I/O (io), C4 I/O (io), D2 I/O (io), D3 I/O (io)
part D pins: E1 I/O (io), E2 I/O (io), E3 I/O (io), E4 I/O (io), F1 I/O (io), F2 I/O (io), G1 I/O (io), G4 I/O (io)
part E pins: A1 TCK (in), A2 TMS (in), B3 TDI (in), G2 TDO (out)
part F pins: C1 VCCINT 3.3V (power), F7 VCCINT 3.3V (power), G3 VCCIO 2.5V/3.3V (power)
part G pins: A5 GND (power), D1 GND (power), F3 GND (power)
part A text: BANK 1
part B text: BANK 2
part C text: BANK 3
part D text: BANK 4

## XC9572XL-5CSG48C
designator U?
FastFLASH XC900XL, 3.3V High-Performance 72 Macrocell CPLD, 38 User I/Os, 48-Ball CSBGA, Speed Grade 5, Commercial Grade, Pb-Free; DatasheetVersion: ver2.0 Apr-2007; PackageVersion: ver1.2.1, Apr-2005; PackageReference: CSG48; PackageDescription: 48-Ball Chip Scale Ball Grid Array (CSG48) - Pb-Free; ComponentLink1Description: Manufacturer URL; ComponentLink1URL: http://www.xilinx.com/; ComponentLink2Description: XC9572XL Datasheet; ComponentLink2URL: http://www.xilinx.com/support/documentation/data_sheets/ds057.pdf; ComponentLink3Description: CSG48 Package Drawing; ComponentLink3URL: http://www.xilinx.com/support/documentation/package_specs/cs48.pdf; ComponentLink4Description: XC9500XL Documents; ComponentLink4URL: http://www.xilinx.com/support/documentation/xc9500xl.htm
footprint CSG48 (BGA, 48-Leads, Body 7x7mm, Pitch 0.8mm)
part A pins: A6 I/O (io), A7 I/O,GCK3 (io), B6 I/O,GCK2 (io), B7 I/O,GCK1 (io), C5 I/O (io), C6 I/O (io), C7 I/O (io), D4 I/O (io), D6 I/O (io), D7 I/O (io)
part B pins: E5 I/O (io), E6 I/O,GTS1 (io), E7 I/O (io), F4 I/O (io), F5 I/O (io), F6 I/O,GTS2 (io), G5 I/O (io), G6 I/O (io), G7 I/O,GSR (io)
part C pins: A3 I/O (io), A4 I/O (io), B1 I/O (io), B2 I/O (io), B4 I/O (io), B5 I/O (io), C2 I/O (io), C3 I/O (io), C4 I/O (io), D2 I/O (io), D3 I/O (io)
part D pins: E1 I/O (io), E2 I/O (io), E3 I/O (io), E4 I/O (io), F1 I/O (io), F2 I/O (io), G1 I/O (io), G4 I/O (io)
part E pins: A1 TCK (in), A2 TMS (in), B3 TDI (in), G2 TDO (out)
part F pins: C1 VCCINT 3.3V (power), F7 VCCINT 3.3V (power), G3 VCCIO 2.5V/3.3V (power)
part G pins: A5 GND (power), D1 GND (power), F3 GND (power)
part A text: BANK 1
part B text: BANK 2
part C text: BANK 3
part D text: BANK 4

## XC9572XL-5PC44C
designator U?
FastFLASH XC900XL, 3.3V High-Performance 72 Macrocell CPLD, 34 User I/Os, 44-Pin PLCC, Speed Grade 5, Commercial Grade; DatasheetVersion: ver2.0 Apr-2007; PackageVersion: ver1.2, Jun-2004; PackageReference: PC44; PackageDescription: 44-Pin Plastic Leaded Chip Carrier (PC44); Code_JEDEC: MS-047; Code_IPC: PLCC-44; ComponentLink1Description: Manufacturer URL; ComponentLink1URL: http://www.xilinx.com/; ComponentLink2Description: XC9572XL Datasheet; ComponentLink2URL: http://www.xilinx.com/support/documentation/data_sheets/ds057.pdf; ComponentLink3Description: PC44 Package Drawing; ComponentLink3URL: http://www.xilinx.com/support/documentation/package_specs/pc44.pdf; ComponentLink4Description: XC9500XL Documents; ComponentLink4URL: http://www.xilinx.com/support/documentation/xc9500xl.htm
footprint PC44_N (Leaded Chip Carrier, 44-Leads, Body 16.6x16.6mm, Pitch 1.27mm, IPC Medium Density)
footprint PC44_L (Leaded Chip Carrier, 44-Leads, Body 16.6x16.6mm, Pitch 1.27mm, IPC High Density)
footprint PC44_M (Leaded Chip Carrier, 44-Leads, Body 16.6x16.6mm, Pitch 1.27mm, IPC Low Density)
part A pins: 1 I/O (io), 2 I/O (io), 3 I/O (io), 4 I/O (io), 5 I/O,GCK1 (io), 6 I/O,GCK2 (io), 7 I/O,GCK3 (io), 8 I/O (io), 9 I/O (io)
part B pins: 35 I/O (io), 36 I/O (io), 37 I/O (io), 38 I/O (io), 39 I/O,GSR (io), 40 I/O,GTS2 (io), 42 I/O,GTS1 (io), 43 I/O (io), 44 I/O (io)
part C pins: 11 I/O (io), 12 I/O (io), 13 I/O (io), 14 I/O (io), 18 I/O (io), 19 I/O (io), 20 I/O (io), 22 I/O (io), 24 I/O (io)
part D pins: 25 I/O (io), 26 I/O (io), 27 I/O (io), 28 I/O (io), 29 I/O (io), 33 I/O (io), 34 I/O (io)
part E pins: 15 TDI (in), 16 TMS (in), 17 TCK (in), 30 TDO (out)
part F pins: 21 VCCINT 3.3V (power), 32 VCCIO 2.5V/3.3V (power), 41 VCCINT 3.3V (power)
part G pins: 10 GND (power), 23 GND (power), 31 GND (power)
part A text: BANK 1
part B text: BANK 2
part C text: BANK 3
part D text: BANK 4

## XC9572XL-5PCG44C
designator U?
FastFLASH XC900XL, 3.3V High-Performance 72 Macrocell CPLD, 34 User I/Os, 44-Pin PLCC, Speed Grade 5, Commercial Grade, Pb-Free; DatasheetVersion: ver2.0 Apr-2007; PackageVersion: ver1.2, Jun-2004; PackageReference: PCG44; PackageDescription: 44-Pin Plastic Leaded Chip Carrier (PCG44) - Pb-Free; Code_JEDEC: MS-047; Code_IPC: PLCC-44; ComponentLink1Description: Manufacturer URL; ComponentLink1URL: http://www.xilinx.com/; ComponentLink2Description: XC9572XL Datasheet; ComponentLink2URL: http://www.xilinx.com/support/documentation/data_sheets/ds057.pdf; ComponentLink3Description: PCG44 Package Drawing; ComponentLink3URL: http://www.xilinx.com/support/documentation/package_specs/pc44.pdf; ComponentLink4Description: XC9500XL Documents; ComponentLink4URL: http://www.xilinx.com/support/documentation/xc9500xl.htm
footprint PCG44_N (Leaded Chip Carrier, 44-Leads, Body 16.6x16.6mm, Pitch 1.27mm, IPC Medium Density)
footprint PCG44_L (Leaded Chip Carrier, 44-Leads, Body 16.6x16.6mm, Pitch 1.27mm, IPC High Density)
footprint PCG44_M (Leaded Chip Carrier, 44-Leads, Body 16.6x16.6mm, Pitch 1.27mm, IPC Low Density)
part A pins: 1 I/O (io), 2 I/O (io), 3 I/O (io), 4 I/O (io), 5 I/O,GCK1 (io), 6 I/O,GCK2 (io), 7 I/O,GCK3 (io), 8 I/O (io), 9 I/O (io)
part B pins: 35 I/O (io), 36 I/O (io), 37 I/O (io), 38 I/O (io), 39 I/O,GSR (io), 40 I/O,GTS2 (io), 42 I/O,GTS1 (io), 43 I/O (io), 44 I/O (io)
part C pins: 11 I/O (io), 12 I/O (io), 13 I/O (io), 14 I/O (io), 18 I/O (io), 19 I/O (io), 20 I/O (io), 22 I/O (io), 24 I/O (io)
part D pins: 25 I/O (io), 26 I/O (io), 27 I/O (io), 28 I/O (io), 29 I/O (io), 33 I/O (io), 34 I/O (io)
part E pins: 15 TDI (in), 16 TMS (in), 17 TCK (in), 30 TDO (out)
part F pins: 21 VCCINT 3.3V (power), 32 VCCIO 2.5V/3.3V (power), 41 VCCINT 3.3V (power)
part G pins: 10 GND (power), 23 GND (power), 31 GND (power)
part A text: BANK 1
part B text: BANK 2
part C text: BANK 3
part D text: BANK 4

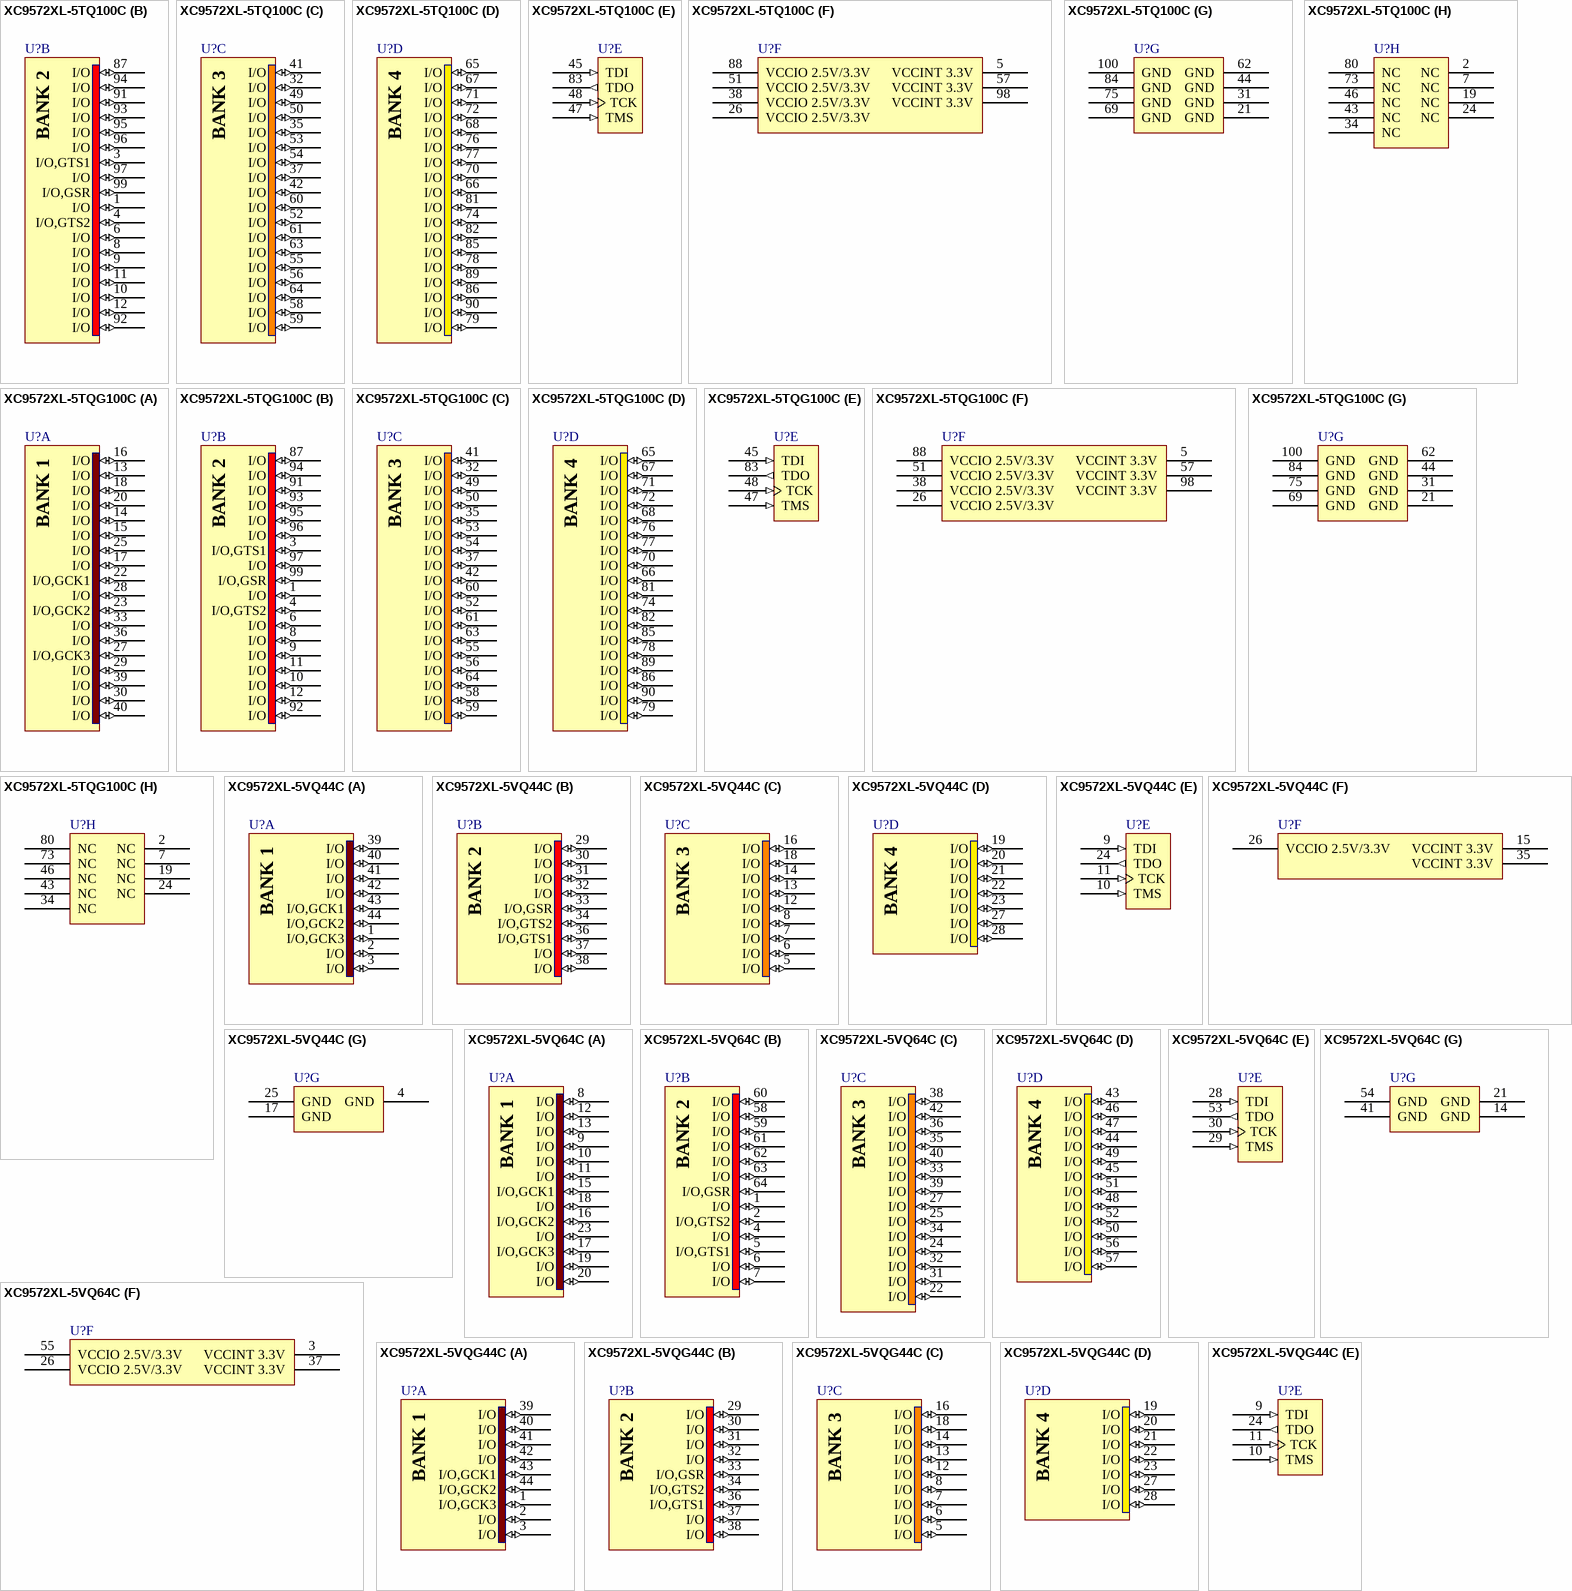
[diagram p9: symbols XC9572XL-5TQ100C to XC9572XL-5VQG44C]

## XC9572XL-5TQ100C
designator U?
FastFLASH XC900XL, 3.3V High-Performance 72 Macrocell CPLD, 72 User I/Os, 100-Pin TQFP, Speed Grade 5, Commercial Grade; DatasheetVersion: ver2.0 Apr-2007; PackageVersion: ver1.2, Jun-2004; PackageReference: TQ100; PackageDescription: 100-Pin Thin Quad Flat Pack (TQ100); ComponentLink1Description: Manufacturer URL; ComponentLink1URL: http://www.xilinx.com/; ComponentLink2Description: XC9572XL Datasheet; ComponentLink2URL: http://www.xilinx.com/support/documentation/data_sheets/ds057.pdf; ComponentLink3Description: TQ100 Package Drawing; ComponentLink3URL: http://www.xilinx.com/support/documentation/package_specs/tq100.pdf; ComponentLink4Description: XC9500XL Documents; ComponentLink4URL: http://www.xilinx.com/support/documentation/xc9500xl.htm
footprint TQ100_N (Thin QFP, 100-Leads, Body 14x14mm, Pitch 0.5mm, IPC Medium Density)
footprint TQ100_L (Thin QFP, 100-Leads, Body 14x14mm, Pitch 0.5mm, IPC High Density)
footprint TQ100_M (Thin QFP, 100-Leads, Body 14x14mm, Pitch 0.5mm, IPC Low Density)
part A pins: 13 I/O (io), 14 I/O (io), 15 I/O (io), 16 I/O (io), 17 I/O (io), 18 I/O (io), 20 I/O (io), 22 I/O,GCK1 (io), 23 I/O,GCK2 (io), 25 I/O (io), 27 I/O,GCK3 (io), 28 I/O (io), 29 I/O (io), 30 I/O (io), 33 I/O (io), 36 I/O (io), 39 I/O (io), 40 I/O (io)
part B pins: 1 I/O (io), 3 I/O,GTS1 (io), 4 I/O,GTS2 (io), 6 I/O (io), 8 I/O (io), 9 I/O (io), 10 I/O (io), 11 I/O (io), 12 I/O (io), 87 I/O (io), 91 I/O (io), 92 I/O (io), 93 I/O (io), 94 I/O (io), 95 I/O (io), 96 I/O (io), 97 I/O (io), 99 I/O,GSR (io)
part C pins: 32 I/O (io), 35 I/O (io), 37 I/O (io), 41 I/O (io), 42 I/O (io), 49 I/O (io), 50 I/O (io), 52 I/O (io), 53 I/O (io), 54 I/O (io), 55 I/O (io), 56 I/O (io), 58 I/O (io), 59 I/O (io), 60 I/O (io), 61 I/O (io), 63 I/O (io), 64 I/O (io)
part D pins: 65 I/O (io), 66 I/O (io), 67 I/O (io), 68 I/O (io), 70 I/O (io), 71 I/O (io), 72 I/O (io), 74 I/O (io), 76 I/O (io), 77 I/O (io), 78 I/O (io), 79 I/O (io), 81 I/O (io), 82 I/O (io), 85 I/O (io), 86 I/O (io), 89 I/O (io), 90 I/O (io)
part E pins: 45 TDI (in), 47 TMS (in), 48 TCK (in), 83 TDO (out)
part F pins: 5 VCCINT 3.3V (power), 26 VCCIO 2.5V/3.3V (power), 38 VCCIO 2.5V/3.3V (power), 51 VCCIO 2.5V/3.3V (power), 57 VCCINT 3.3V (power), 88 VCCIO 2.5V/3.3V (power), 98 VCCINT 3.3V (power)
part G pins: 21 GND (power), 31 GND (power), 44 GND (power), 62 GND (power), 69 GND (power), 75 GND (power), 84 GND (power), 100 GND (power)
part H pins: 2 NC, 7 NC, 19 NC, 24 NC, 34 NC, 43 NC, 46 NC, 73 NC, 80 NC
part A text: BANK 1
part B text: BANK 2
part C text: BANK 3
part D text: BANK 4

## XC9572XL-5TQG100C
designator U?
FastFLASH XC900XL, 3.3V High-Performance 72 Macrocell CPLD, 72 User I/Os, 100-Pin TQFP, Speed Grade 5, Commercial Grade, Pb-Free; DatasheetVersion: ver2.0 Apr-2007; PackageVersion: ver1.2, Jun-2004; PackageReference: TQG100; PackageDescription: 100-Pin Thin Quad Flat Pack (TQG100) - Pb-Free; ComponentLink1Description: Manufacturer URL; ComponentLink1URL: http://www.xilinx.com/; ComponentLink2Description: XC9572XL Datasheet; ComponentLink2URL: http://www.xilinx.com/support/documentation/data_sheets/ds057.pdf; ComponentLink3Description: TQG100 Package Drawing; ComponentLink3URL: http://www.xilinx.com/support/documentation/package_specs/tq100.pdf; ComponentLink4Description: XC9500XL Documents; ComponentLink4URL: http://www.xilinx.com/support/documentation/xc9500xl.htm
footprint TQG100_N (Thin QFP, 100-Leads, Body 14x14mm, Pitch 0.5mm, IPC Medium Density)
footprint TQG100_L (Thin QFP, 100-Leads, Body 14x14mm, Pitch 0.5mm, IPC High Density)
footprint TQG100_M (Thin QFP, 100-Leads, Body 14x14mm, Pitch 0.5mm, IPC Low Density)
part A pins: 13 I/O (io), 14 I/O (io), 15 I/O (io), 16 I/O (io), 17 I/O (io), 18 I/O (io), 20 I/O (io), 22 I/O,GCK1 (io), 23 I/O,GCK2 (io), 25 I/O (io), 27 I/O,GCK3 (io), 28 I/O (io), 29 I/O (io), 30 I/O (io), 33 I/O (io), 36 I/O (io), 39 I/O (io), 40 I/O (io)
part B pins: 1 I/O (io), 3 I/O,GTS1 (io), 4 I/O,GTS2 (io), 6 I/O (io), 8 I/O (io), 9 I/O (io), 10 I/O (io), 11 I/O (io), 12 I/O (io), 87 I/O (io), 91 I/O (io), 92 I/O (io), 93 I/O (io), 94 I/O (io), 95 I/O (io), 96 I/O (io), 97 I/O (io), 99 I/O,GSR (io)
part C pins: 32 I/O (io), 35 I/O (io), 37 I/O (io), 41 I/O (io), 42 I/O (io), 49 I/O (io), 50 I/O (io), 52 I/O (io), 53 I/O (io), 54 I/O (io), 55 I/O (io), 56 I/O (io), 58 I/O (io), 59 I/O (io), 60 I/O (io), 61 I/O (io), 63 I/O (io), 64 I/O (io)
part D pins: 65 I/O (io), 66 I/O (io), 67 I/O (io), 68 I/O (io), 70 I/O (io), 71 I/O (io), 72 I/O (io), 74 I/O (io), 76 I/O (io), 77 I/O (io), 78 I/O (io), 79 I/O (io), 81 I/O (io), 82 I/O (io), 85 I/O (io), 86 I/O (io), 89 I/O (io), 90 I/O (io)
part E pins: 45 TDI (in), 47 TMS (in), 48 TCK (in), 83 TDO (out)
part F pins: 5 VCCINT 3.3V (power), 26 VCCIO 2.5V/3.3V (power), 38 VCCIO 2.5V/3.3V (power), 51 VCCIO 2.5V/3.3V (power), 57 VCCINT 3.3V (power), 88 VCCIO 2.5V/3.3V (power), 98 VCCINT 3.3V (power)
part G pins: 21 GND (power), 31 GND (power), 44 GND (power), 62 GND (power), 69 GND (power), 75 GND (power), 84 GND (power), 100 GND (power)
part H pins: 2 NC, 7 NC, 19 NC, 24 NC, 34 NC, 43 NC, 46 NC, 73 NC, 80 NC
part A text: BANK 1
part B text: BANK 2
part C text: BANK 3
part D text: BANK 4

## XC9572XL-5VQ44C
designator U?
FastFLASH XC900XL, 3.3V High-Performance 72 Macrocell CPLD, 34 User I/Os, 44-Pin VQFP, Speed Grade 5, Commercial Grade; DatasheetVersion: ver2.0 Apr-2007; PackageVersion: ver1.2, Jun-2004; PackageReference: VQ44; PackageDescription: 44-Pin Very Thin Quad Flat Pack (VQ44); Code_JEDEC: MS-026-ACB; ComponentLink1Description: Manufacturer URL; ComponentLink1URL: http://www.xilinx.com/; ComponentLink2Description: XC9572XL Datasheet; ComponentLink2URL: http://www.xilinx.com/support/documentation/data_sheets/ds057.pdf; ComponentLink3Description: VQ44 Package Drawing; ComponentLink3URL: http://www.xilinx.com/support/documentation/package_specs/vq44.pdf; ComponentLink4Description: XC9500XL Documents; ComponentLink4URL: http://www.xilinx.com/support/documentation/xc9500xl.htm
footprint VQ44_N (Thin QFP, 44-Leads, Body 10x10mm, Pitch 0.8mm, IPC Medium Density)
footprint VQ44_L (Thin QFP, 44-Leads, Body 10x10mm, Pitch 0.8mm, IPC High Density)
footprint VQ44_M (Thin QFP, 44-Leads, Body 10x10mm, Pitch 0.8mm, IPC Low Density)
part A pins: 1 I/O,GCK3 (io), 2 I/O (io), 3 I/O (io), 39 I/O (io), 40 I/O (io), 41 I/O (io), 42 I/O (io), 43 I/O,GCK1 (io), 44 I/O,GCK2 (io)
part B pins: 29 I/O (io), 30 I/O (io), 31 I/O (io), 32 I/O (io), 33 I/O,GSR (io), 34 I/O,GTS2 (io), 36 I/O,GTS1 (io), 37 I/O (io), 38 I/O (io)
part C pins: 5 I/O (io), 6 I/O (io), 7 I/O (io), 8 I/O (io), 12 I/O (io), 13 I/O (io), 14 I/O (io), 16 I/O (io), 18 I/O (io)
part D pins: 19 I/O (io), 20 I/O (io), 21 I/O (io), 22 I/O (io), 23 I/O (io), 27 I/O (io), 28 I/O (io)
part E pins: 9 TDI (in), 10 TMS (in), 11 TCK (in), 24 TDO (out)
part F pins: 15 VCCINT 3.3V (power), 26 VCCIO 2.5V/3.3V (power), 35 VCCINT 3.3V (power)
part G pins: 4 GND (power), 17 GND (power), 25 GND (power)
part A text: BANK 1
part B text: BANK 2
part C text: BANK 3
part D text: BANK 4

## XC9572XL-5VQ64C
designator U?
FastFLASH XC900XL, 3.3V High-Performance 72 Macrocell CPLD, 52 User I/Os, 64-Pin VQFP, Speed Grade 5, Commercial Grade; DatasheetVersion: ver2.0 Apr-2007; PackageVersion: ver1.2, Jun-2004; PackageReference: VQ64; PackageDescription: 64-Pin Very Thin Quad Flat Pack (VQ64); Code_JEDEC: MS-026-ACD; ComponentLink1Description: Manufacturer URL; ComponentLink1URL: http://www.xilinx.com/; ComponentLink2Description: XC9572XL Datasheet; ComponentLink2URL: http://www.xilinx.com/support/documentation/data_sheets/ds057.pdf; ComponentLink3Description: VQ64 Package Drawing; ComponentLink3URL: http://www.xilinx.com/support/documentation/package_specs/vq64.pdf; ComponentLink4Description: XC9500XL Documents; ComponentLink4URL: http://www.xilinx.com/support/documentation/xc9500xl.htm
footprint VQ64_N (Thin QFP, 64-Leads, Body 10x10mm, Pitch 0.5mm, IPC Medium Density)
footprint VQ64_L (Thin QFP, 64-Leads, Body 10x10mm, Pitch 0.5mm, IPC High Density)
footprint VQ64_M (Thin QFP, 64-Leads, Body 10x10mm, Pitch 0.5mm, IPC Low Density)
part A pins: 8 I/O (io), 9 I/O (io), 10 I/O (io), 11 I/O (io), 12 I/O (io), 13 I/O (io), 15 I/O,GCK1 (io), 16 I/O,GCK2 (io), 17 I/O,GCK3 (io), 18 I/O (io), 19 I/O (io), 20 I/O (io), 23 I/O (io)
part B pins: 1 I/O (io), 2 I/O,GTS2 (io), 4 I/O (io), 5 I/O,GTS1 (io), 6 I/O (io), 7 I/O (io), 58 I/O (io), 59 I/O (io), 60 I/O (io), 61 I/O (io), 62 I/O (io), 63 I/O (io), 64 I/O,GSR (io)
part C pins: 22 I/O (io), 24 I/O (io), 25 I/O (io), 27 I/O (io), 31 I/O (io), 32 I/O (io), 33 I/O (io), 34 I/O (io), 35 I/O (io), 36 I/O (io), 38 I/O (io), 39 I/O (io), 40 I/O (io), 42 I/O (io)
part D pins: 43 I/O (io), 44 I/O (io), 45 I/O (io), 46 I/O (io), 47 I/O (io), 48 I/O (io), 49 I/O (io), 50 I/O (io), 51 I/O (io), 52 I/O (io), 56 I/O (io), 57 I/O (io)
part E pins: 28 TDI (in), 29 TMS (in), 30 TCK (in), 53 TDO (out)
part F pins: 3 VCCINT 3.3V (power), 26 VCCIO 2.5V/3.3V (power), 37 VCCINT 3.3V (power), 55 VCCIO 2.5V/3.3V (power)
part G pins: 14 GND (power), 21 GND (power), 41 GND (power), 54 GND (power)
part A text: BANK 1
part B text: BANK 2
part C text: BANK 3
part D text: BANK 4

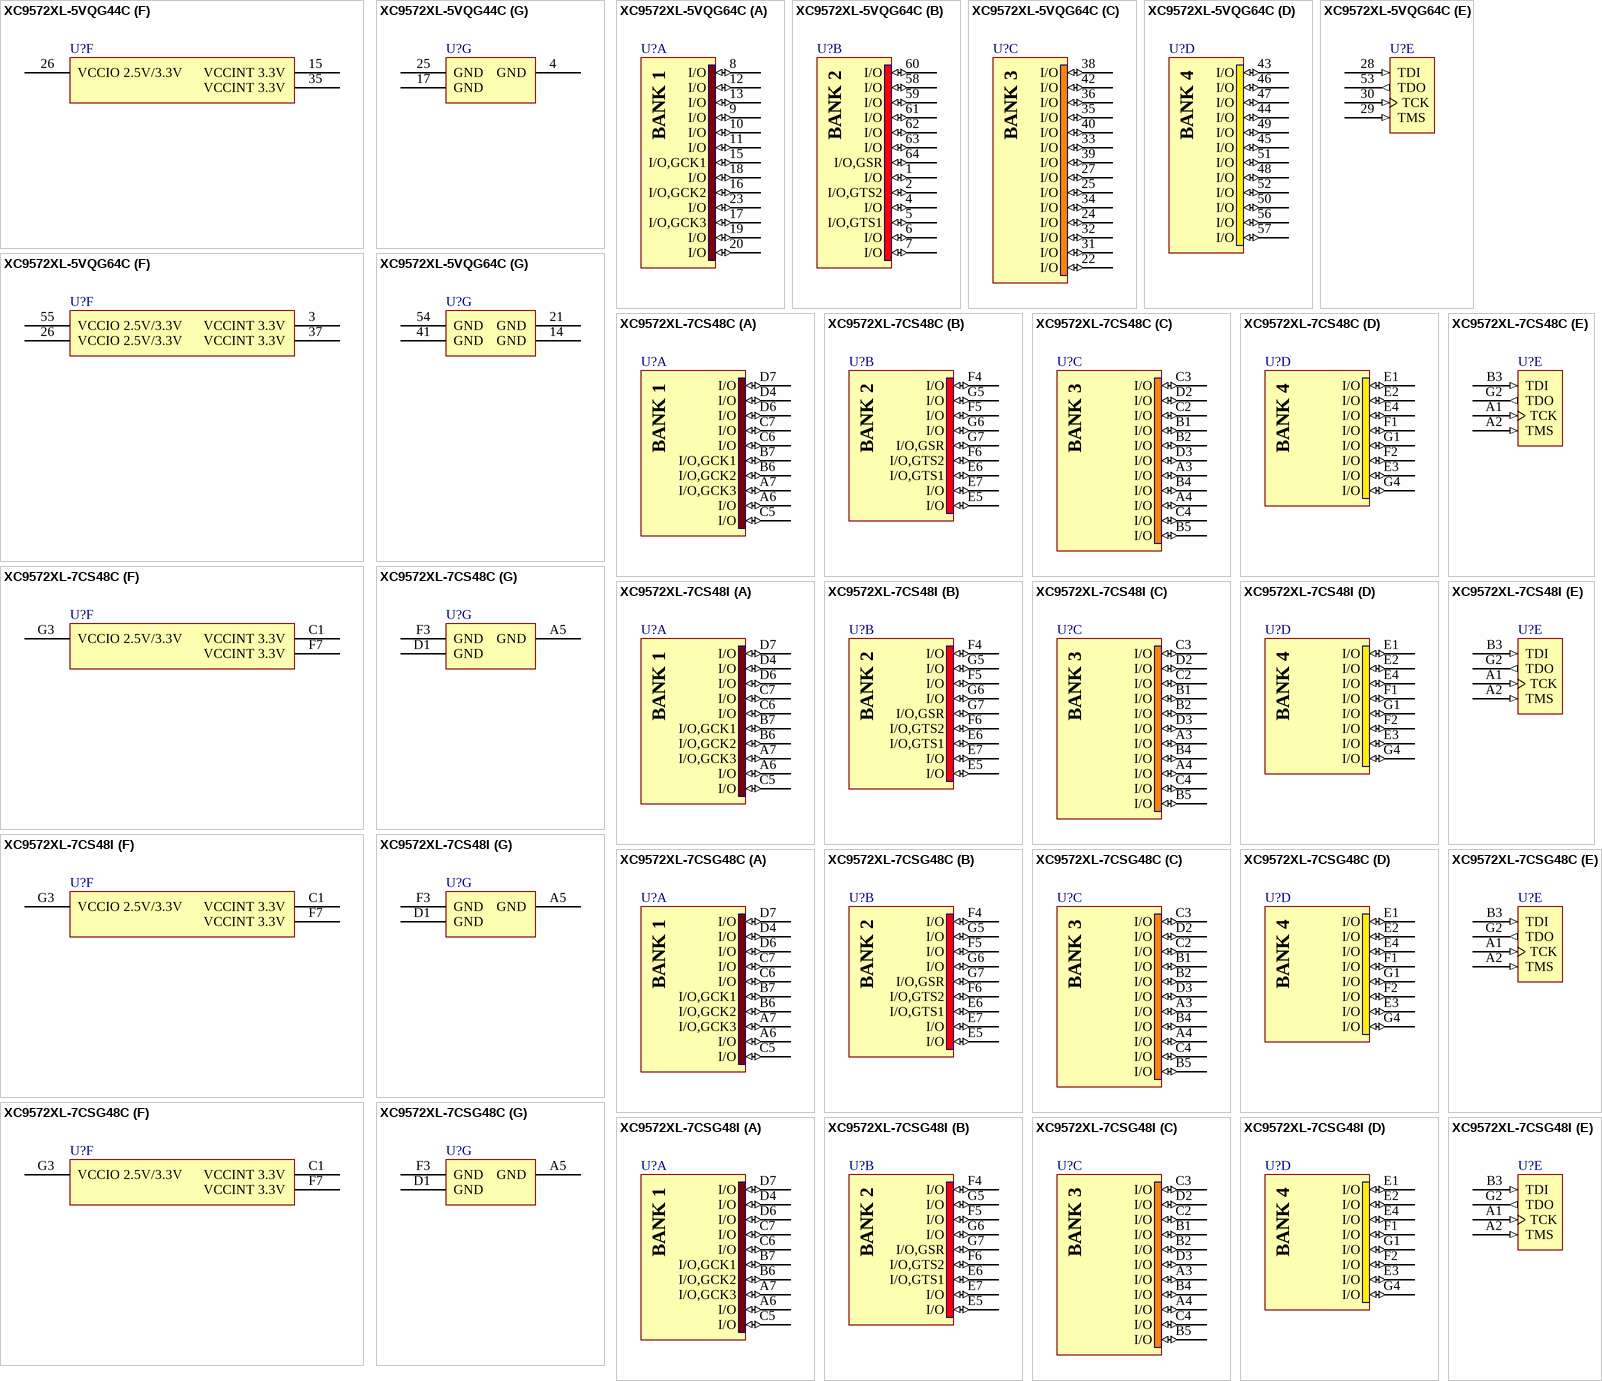
[diagram p10: symbols XC9572XL-5VQG44C to XC9572XL-7CSG48I]

## XC9572XL-5VQG44C
designator U?
FastFLASH XC900XL, 3.3V High-Performance 72 Macrocell CPLD, 34 User I/Os, 44-Pin VQFP, Speed Grade 5, Commercial Grade, Pb-Free; DatasheetVersion: ver2.0 Apr-2007; PackageVersion: ver1.2, Jun-2004; PackageReference: VQG44; PackageDescription: 44-Pin Very Thin Quad Flat Pack (VQG44) - Pb-Free; Code_JEDEC: MS-026-ACB; ComponentLink1Description: Manufacturer URL; ComponentLink1URL: http://www.xilinx.com/; ComponentLink2Description: XC9572XL Datasheet; ComponentLink2URL: http://www.xilinx.com/support/documentation/data_sheets/ds057.pdf; ComponentLink3Description: VQG44 Package Drawing; ComponentLink3URL: http://www.xilinx.com/support/documentation/package_specs/vq44.pdf; ComponentLink4Description: XC9500XL Documents; ComponentLink4URL: http://www.xilinx.com/support/documentation/xc9500xl.htm
footprint VQG44_N (Thin QFP, 44-Leads, Body 10x10mm, Pitch 0.8mm, IPC Medium Density)
footprint VQG44_L (Thin QFP, 44-Leads, Body 10x10mm, Pitch 0.8mm, IPC High Density)
footprint VQG44_M (Thin QFP, 44-Leads, Body 10x10mm, Pitch 0.8mm, IPC Low Density)
part A pins: 1 I/O,GCK3 (io), 2 I/O (io), 3 I/O (io), 39 I/O (io), 40 I/O (io), 41 I/O (io), 42 I/O (io), 43 I/O,GCK1 (io), 44 I/O,GCK2 (io)
part B pins: 29 I/O (io), 30 I/O (io), 31 I/O (io), 32 I/O (io), 33 I/O,GSR (io), 34 I/O,GTS2 (io), 36 I/O,GTS1 (io), 37 I/O (io), 38 I/O (io)
part C pins: 5 I/O (io), 6 I/O (io), 7 I/O (io), 8 I/O (io), 12 I/O (io), 13 I/O (io), 14 I/O (io), 16 I/O (io), 18 I/O (io)
part D pins: 19 I/O (io), 20 I/O (io), 21 I/O (io), 22 I/O (io), 23 I/O (io), 27 I/O (io), 28 I/O (io)
part E pins: 9 TDI (in), 10 TMS (in), 11 TCK (in), 24 TDO (out)
part F pins: 15 VCCINT 3.3V (power), 26 VCCIO 2.5V/3.3V (power), 35 VCCINT 3.3V (power)
part G pins: 4 GND (power), 17 GND (power), 25 GND (power)
part A text: BANK 1
part B text: BANK 2
part C text: BANK 3
part D text: BANK 4

## XC9572XL-5VQG64C
designator U?
FastFLASH XC900XL, 3.3V High-Performance 72 Macrocell CPLD, 52 User I/Os, 64-Pin VQFP, Speed Grade 5, Commercial Grade, Pb-Free; DatasheetVersion: ver2.0 Apr-2007; PackageVersion: ver1.2, Jun-2004; PackageReference: VQG64; PackageDescription: 64-Pin Very Thin Quad Flat Pack (VQG64) - Pb-Free; Code_JEDEC: MS-026-ACD; ComponentLink1Description: Manufacturer URL; ComponentLink1URL: http://www.xilinx.com/; ComponentLink2Description: XC9572XL Datasheet; ComponentLink2URL: http://www.xilinx.com/support/documentation/data_sheets/ds057.pdf; ComponentLink3Description: VQG64 Package Drawing; ComponentLink3URL: http://www.xilinx.com/support/documentation/package_specs/vq64.pdf; ComponentLink4Description: XC9500XL Documents; ComponentLink4URL: http://www.xilinx.com/support/documentation/xc9500xl.htm
footprint VQG64_N (Thin QFP, 64-Leads, Body 10x10mm, Pitch 0.5mm, IPC Medium Density)
footprint VQG64_L (Thin QFP, 64-Leads, Body 10x10mm, Pitch 0.5mm, IPC High Density)
footprint VQG64_M (Thin QFP, 64-Leads, Body 10x10mm, Pitch 0.5mm, IPC Low Density)
part A pins: 8 I/O (io), 9 I/O (io), 10 I/O (io), 11 I/O (io), 12 I/O (io), 13 I/O (io), 15 I/O,GCK1 (io), 16 I/O,GCK2 (io), 17 I/O,GCK3 (io), 18 I/O (io), 19 I/O (io), 20 I/O (io), 23 I/O (io)
part B pins: 1 I/O (io), 2 I/O,GTS2 (io), 4 I/O (io), 5 I/O,GTS1 (io), 6 I/O (io), 7 I/O (io), 58 I/O (io), 59 I/O (io), 60 I/O (io), 61 I/O (io), 62 I/O (io), 63 I/O (io), 64 I/O,GSR (io)
part C pins: 22 I/O (io), 24 I/O (io), 25 I/O (io), 27 I/O (io), 31 I/O (io), 32 I/O (io), 33 I/O (io), 34 I/O (io), 35 I/O (io), 36 I/O (io), 38 I/O (io), 39 I/O (io), 40 I/O (io), 42 I/O (io)
part D pins: 43 I/O (io), 44 I/O (io), 45 I/O (io), 46 I/O (io), 47 I/O (io), 48 I/O (io), 49 I/O (io), 50 I/O (io), 51 I/O (io), 52 I/O (io), 56 I/O (io), 57 I/O (io)
part E pins: 28 TDI (in), 29 TMS (in), 30 TCK (in), 53 TDO (out)
part F pins: 3 VCCINT 3.3V (power), 26 VCCIO 2.5V/3.3V (power), 37 VCCINT 3.3V (power), 55 VCCIO 2.5V/3.3V (power)
part G pins: 14 GND (power), 21 GND (power), 41 GND (power), 54 GND (power)
part A text: BANK 1
part B text: BANK 2
part C text: BANK 3
part D text: BANK 4

## XC9572XL-7CS48C
designator U?
FastFLASH XC900XL, 3.3V High-Performance 72 Macrocell CPLD, 38 User I/Os, 48-Ball CSBGA, Speed Grade 7, Commercial Grade; DatasheetVersion: ver2.0 Apr-2007; PackageVersion: ver1.2.1, Apr-2005; PackageReference: CS48; PackageDescription: 48-Ball Chip Scale Ball Grid Array (CS48); ComponentLink1Description: Manufacturer URL; ComponentLink1URL: http://www.xilinx.com/; ComponentLink2Description: XC9572XL Datasheet; ComponentLink2URL: http://www.xilinx.com/support/documentation/data_sheets/ds057.pdf; ComponentLink3Description: CS48 Package Drawing; ComponentLink3URL: http://www.xilinx.com/support/documentation/package_specs/cs48.pdf; ComponentLink4Description: XC9500XL Documents; ComponentLink4URL: http://www.xilinx.com/support/documentation/xc9500xl.htm
footprint CS48 (BGA, 48-Leads, Body 7x7mm, Pitch 0.8mm)
part A pins: A6 I/O (io), A7 I/O,GCK3 (io), B6 I/O,GCK2 (io), B7 I/O,GCK1 (io), C5 I/O (io), C6 I/O (io), C7 I/O (io), D4 I/O (io), D6 I/O (io), D7 I/O (io)
part B pins: E5 I/O (io), E6 I/O,GTS1 (io), E7 I/O (io), F4 I/O (io), F5 I/O (io), F6 I/O,GTS2 (io), G5 I/O (io), G6 I/O (io), G7 I/O,GSR (io)
part C pins: A3 I/O (io), A4 I/O (io), B1 I/O (io), B2 I/O (io), B4 I/O (io), B5 I/O (io), C2 I/O (io), C3 I/O (io), C4 I/O (io), D2 I/O (io), D3 I/O (io)
part D pins: E1 I/O (io), E2 I/O (io), E3 I/O (io), E4 I/O (io), F1 I/O (io), F2 I/O (io), G1 I/O (io), G4 I/O (io)
part E pins: A1 TCK (in), A2 TMS (in), B3 TDI (in), G2 TDO (out)
part F pins: C1 VCCINT 3.3V (power), F7 VCCINT 3.3V (power), G3 VCCIO 2.5V/3.3V (power)
part G pins: A5 GND (power), D1 GND (power), F3 GND (power)
part A text: BANK 1
part B text: BANK 2
part C text: BANK 3
part D text: BANK 4

## XC9572XL-7CS48I
designator U?
FastFLASH XC900XL, 3.3V High-Performance 72 Macrocell CPLD, 38 User I/Os, 48-Ball CSBGA, Speed Grade 7, Industrial Grade; DatasheetVersion: ver2.0 Apr-2007; PackageVersion: ver1.2.1, Apr-2005; PackageReference: CS48; PackageDescription: 48-Ball Chip Scale Ball Grid Array (CS48); ComponentLink1Description: Manufacturer URL; ComponentLink1URL: http://www.xilinx.com/; ComponentLink2Description: XC9572XL Datasheet; ComponentLink2URL: http://www.xilinx.com/support/documentation/data_sheets/ds057.pdf; ComponentLink3Description: CS48 Package Drawing; ComponentLink3URL: http://www.xilinx.com/support/documentation/package_specs/cs48.pdf; ComponentLink4Description: XC9500XL Documents; ComponentLink4URL: http://www.xilinx.com/support/documentation/xc9500xl.htm
footprint CS48 (BGA, 48-Leads, Body 7x7mm, Pitch 0.8mm)
part A pins: A6 I/O (io), A7 I/O,GCK3 (io), B6 I/O,GCK2 (io), B7 I/O,GCK1 (io), C5 I/O (io), C6 I/O (io), C7 I/O (io), D4 I/O (io), D6 I/O (io), D7 I/O (io)
part B pins: E5 I/O (io), E6 I/O,GTS1 (io), E7 I/O (io), F4 I/O (io), F5 I/O (io), F6 I/O,GTS2 (io), G5 I/O (io), G6 I/O (io), G7 I/O,GSR (io)
part C pins: A3 I/O (io), A4 I/O (io), B1 I/O (io), B2 I/O (io), B4 I/O (io), B5 I/O (io), C2 I/O (io), C3 I/O (io), C4 I/O (io), D2 I/O (io), D3 I/O (io)
part D pins: E1 I/O (io), E2 I/O (io), E3 I/O (io), E4 I/O (io), F1 I/O (io), F2 I/O (io), G1 I/O (io), G4 I/O (io)
part E pins: A1 TCK (in), A2 TMS (in), B3 TDI (in), G2 TDO (out)
part F pins: C1 VCCINT 3.3V (power), F7 VCCINT 3.3V (power), G3 VCCIO 2.5V/3.3V (power)
part G pins: A5 GND (power), D1 GND (power), F3 GND (power)
part A text: BANK 1
part B text: BANK 2
part C text: BANK 3
part D text: BANK 4

## XC9572XL-7CSG48C
designator U?
FastFLASH XC900XL, 3.3V High-Performance 72 Macrocell CPLD, 38 User I/Os, 48-Ball CSBGA, Speed Grade 7, Commercial Grade, Pb-Free; DatasheetVersion: ver2.0 Apr-2007; PackageVersion: ver1.2.1, Apr-2005; PackageReference: CSG48; PackageDescription: 48-Ball Chip Scale Ball Grid Array (CSG48) - Pb-Free; ComponentLink1Description: Manufacturer URL; ComponentLink1URL: http://www.xilinx.com/; ComponentLink2Description: XC9572XL Datasheet; ComponentLink2URL: http://www.xilinx.com/support/documentation/data_sheets/ds057.pdf; ComponentLink3Description: CSG48 Package Drawing; ComponentLink3URL: http://www.xilinx.com/support/documentation/package_specs/cs48.pdf; ComponentLink4Description: XC9500XL Documents; ComponentLink4URL: http://www.xilinx.com/support/documentation/xc9500xl.htm
footprint CSG48 (BGA, 48-Leads, Body 7x7mm, Pitch 0.8mm)
part A pins: A6 I/O (io), A7 I/O,GCK3 (io), B6 I/O,GCK2 (io), B7 I/O,GCK1 (io), C5 I/O (io), C6 I/O (io), C7 I/O (io), D4 I/O (io), D6 I/O (io), D7 I/O (io)
part B pins: E5 I/O (io), E6 I/O,GTS1 (io), E7 I/O (io), F4 I/O (io), F5 I/O (io), F6 I/O,GTS2 (io), G5 I/O (io), G6 I/O (io), G7 I/O,GSR (io)
part C pins: A3 I/O (io), A4 I/O (io), B1 I/O (io), B2 I/O (io), B4 I/O (io), B5 I/O (io), C2 I/O (io), C3 I/O (io), C4 I/O (io), D2 I/O (io), D3 I/O (io)
part D pins: E1 I/O (io), E2 I/O (io), E3 I/O (io), E4 I/O (io), F1 I/O (io), F2 I/O (io), G1 I/O (io), G4 I/O (io)
part E pins: A1 TCK (in), A2 TMS (in), B3 TDI (in), G2 TDO (out)
part F pins: C1 VCCINT 3.3V (power), F7 VCCINT 3.3V (power), G3 VCCIO 2.5V/3.3V (power)
part G pins: A5 GND (power), D1 GND (power), F3 GND (power)
part A text: BANK 1
part B text: BANK 2
part C text: BANK 3
part D text: BANK 4

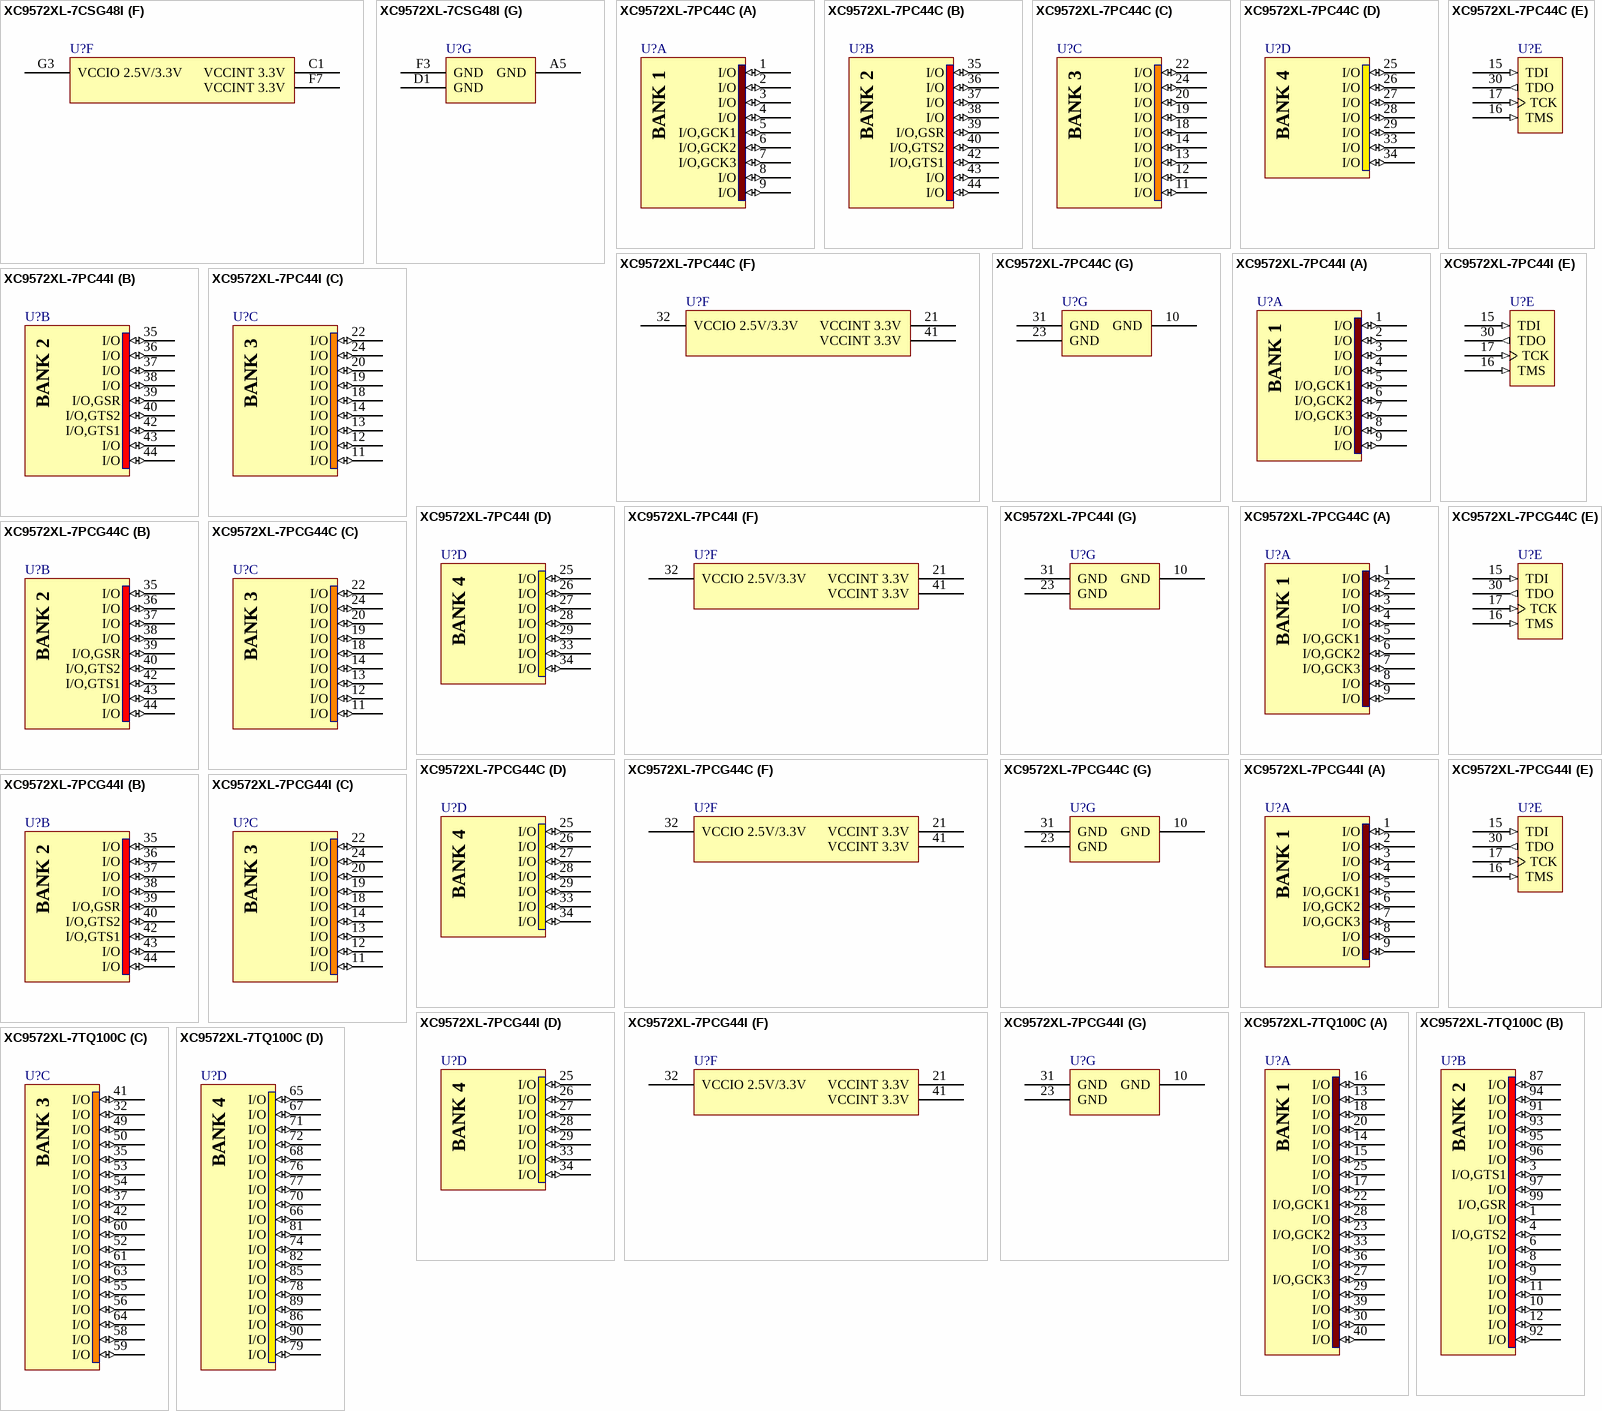
[diagram p11: symbols XC9572XL-7CSG48I to XC9572XL-7TQ100C]

## XC9572XL-7CSG48I
designator U?
FastFLASH XC900XL, 3.3V High-Performance 72 Macrocell CPLD, 38 User I/Os, 48-Ball CSBGA, Speed Grade 7, Industrial Grade, Pb-Free; DatasheetVersion: ver2.0 Apr-2007; PackageVersion: ver1.2.1, Apr-2005; PackageReference: CSG48; PackageDescription: 48-Ball Chip Scale Ball Grid Array (CSG48) - Pb-Free; ComponentLink1Description: Manufacturer URL; ComponentLink1URL: http://www.xilinx.com/; ComponentLink2Description: XC9572XL Datasheet; ComponentLink2URL: http://www.xilinx.com/support/documentation/data_sheets/ds057.pdf; ComponentLink3Description: CSG48 Package Drawing; ComponentLink3URL: http://www.xilinx.com/support/documentation/package_specs/cs48.pdf; ComponentLink4Description: XC9500XL Documents; ComponentLink4URL: http://www.xilinx.com/support/documentation/xc9500xl.htm
footprint CSG48 (BGA, 48-Leads, Body 7x7mm, Pitch 0.8mm)
part A pins: A6 I/O (io), A7 I/O,GCK3 (io), B6 I/O,GCK2 (io), B7 I/O,GCK1 (io), C5 I/O (io), C6 I/O (io), C7 I/O (io), D4 I/O (io), D6 I/O (io), D7 I/O (io)
part B pins: E5 I/O (io), E6 I/O,GTS1 (io), E7 I/O (io), F4 I/O (io), F5 I/O (io), F6 I/O,GTS2 (io), G5 I/O (io), G6 I/O (io), G7 I/O,GSR (io)
part C pins: A3 I/O (io), A4 I/O (io), B1 I/O (io), B2 I/O (io), B4 I/O (io), B5 I/O (io), C2 I/O (io), C3 I/O (io), C4 I/O (io), D2 I/O (io), D3 I/O (io)
part D pins: E1 I/O (io), E2 I/O (io), E3 I/O (io), E4 I/O (io), F1 I/O (io), F2 I/O (io), G1 I/O (io), G4 I/O (io)
part E pins: A1 TCK (in), A2 TMS (in), B3 TDI (in), G2 TDO (out)
part F pins: C1 VCCINT 3.3V (power), F7 VCCINT 3.3V (power), G3 VCCIO 2.5V/3.3V (power)
part G pins: A5 GND (power), D1 GND (power), F3 GND (power)
part A text: BANK 1
part B text: BANK 2
part C text: BANK 3
part D text: BANK 4